# Altium integrated library Actel IGLOO PLUS.IntLib: 96 symbols (part 7 of 12)
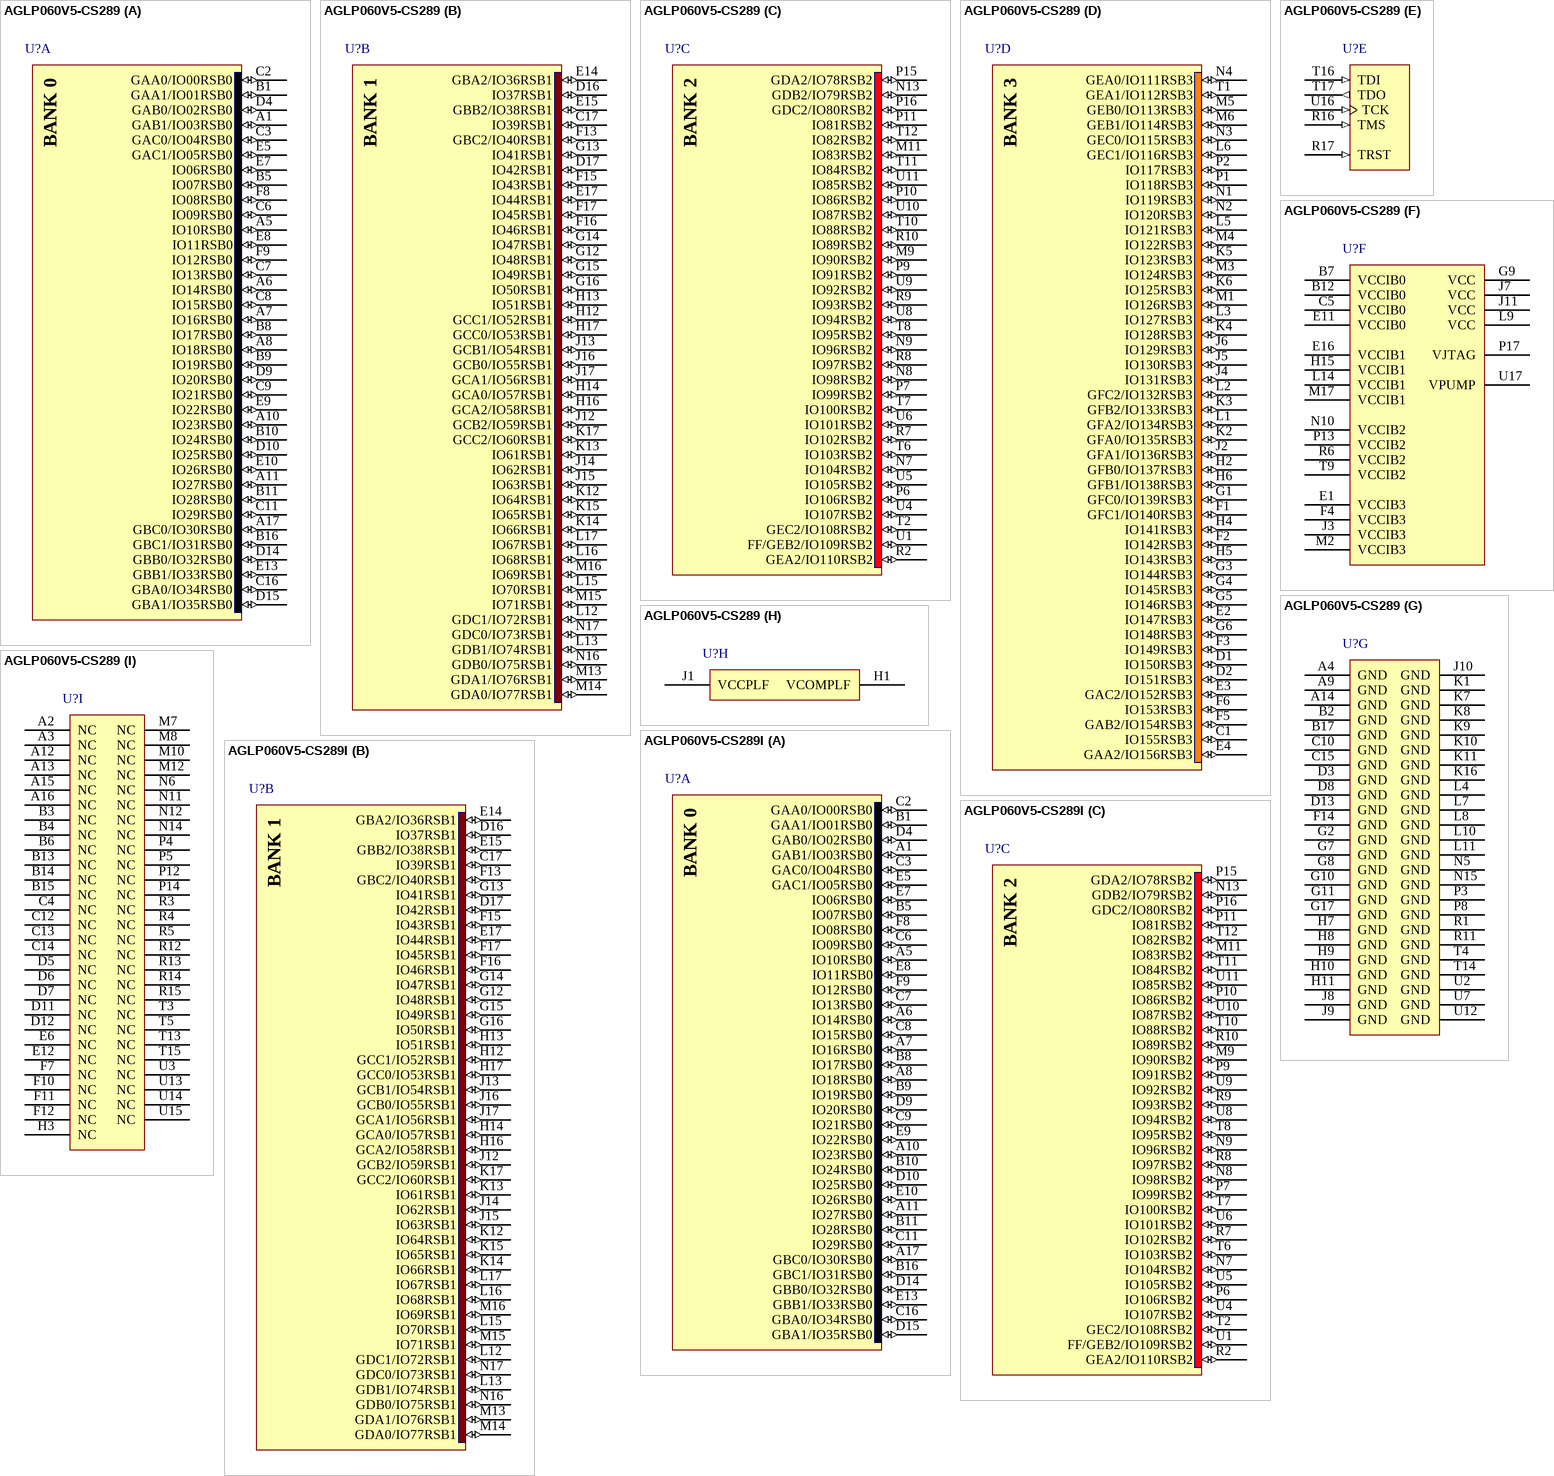
[diagram p70: symbols AGLP060V5-CS289 to AGLP060V5-CS289I]

## AGLP060V5-CS289
designator U?
IGLOO PLUS Low-Power Flash 1.5V FPGA with Flash*Freeze, 157 User IOs, 60K System Gates, 1Kbit Flash ROM, 289-Pin CSP, Commercial Grade; Published: 29-May-2009; LatestRevisionDate: 11-Dec-2009; LatestRevisionNote: Updated to datasheet version 1.5 Apr-2009.; DatasheetVersion: v1.5, Apr-2009; PackageVersion: ver11.2, Nov-2009; PackageReference: CS289; Publisher: Altium Limited; PackageDescription: 289-Ball Chip Scale Package 0.8 mm Pitch (CS289); ComponentLink1Description: IGLOO PLUS Datasheet; ComponentLink1URL: http://www.actel.com/documents/IGLOOPLUS_DS.pdf; ComponentLink2Description: Package Mechanical Drawings; ComponentLink2URL: http://www.actel.com/documents/PckgMechDrwngs.pdf; ComponentLink3Description: IGLOO PLUS Documents; ComponentLink3URL: http://www.actel.com/products/iglooplus/docs.aspx; ComponentLink4Description: Actel.com Home; ComponentLink4URL: http://www.actel.com/
footprint CS289 (BGA, 289-Leads, Body 14x14mm, Pitch 0.8mm)
3D model AGLP060-CS289 (289-Ball Chip Scale Package 0.8 mm Pitch (CS289))
signal-integrity model AGLP060-CS289 (IGLOO PLUS)
part A pins: A1 GAB1/IO03RSB0 (io), A5 IO10RSB0 (io), A6 IO14RSB0 (io), A7 IO16RSB0 (io), A8 IO18RSB0 (io), A10 IO23RSB0 (io), A11 IO27RSB0 (io), A17 GBC0/IO30RSB0 (io), B1 GAA1/IO01RSB0 (io), B5 IO07RSB0 (io), B8 IO17RSB0 (io), B9 IO19RSB0 (io), B10 IO24RSB0 (io), B11 IO28RSB0 (io), B16 GBC1/IO31RSB0 (io), C2 GAA0/IO00RSB0 (io), C3 GAC0/IO04RSB0 (io), C6 IO09RSB0 (io), C7 IO13RSB0 (io), C8 IO15RSB0 (io), C9 IO21RSB0 (io), C11 IO29RSB0 (io), C16 GBA0/IO34RSB0 (io), D4 GAB0/IO02RSB0 (io), D9 IO20RSB0 (io), D10 IO25RSB0 (io), D14 GBB0/IO32RSB0 (io), D15 GBA1/IO35RSB0 (io), E5 GAC1/IO05RSB0 (io), E7 IO06RSB0 (io), E8 IO11RSB0 (io), E9 IO22RSB0 (io), E10 IO26RSB0 (io), E13 GBB1/IO33RSB0 (io), F8 IO08RSB0 (io), F9 IO12RSB0 (io)
part B pins: C17 IO39RSB1 (io), D16 IO37RSB1 (io), D17 IO42RSB1 (io), E14 GBA2/IO36RSB1 (io), E15 GBB2/IO38RSB1 (io), E17 IO44RSB1 (io), F13 GBC2/IO40RSB1 (io), F15 IO43RSB1 (io), F16 IO46RSB1 (io), F17 IO45RSB1 (io), G12 IO48RSB1 (io), G13 IO41RSB1 (io), G14 IO47RSB1 (io), G15 IO49RSB1 (io), G16 IO50RSB1 (io), H12 GCC1/IO52RSB1 (io), H13 IO51RSB1 (io), H14 GCA0/IO57RSB1 (io), H16 GCA2/IO58RSB1 (io), H17 GCC0/IO53RSB1 (io), J12 GCB2/IO59RSB1 (io), J13 GCB1/IO54RSB1 (io), J14 IO62RSB1 (io), J15 IO63RSB1 (io), J16 GCB0/IO55RSB1 (io), J17 GCA1/IO56RSB1 (io), K12 IO64RSB1 (io), K13 IO61RSB1 (io), K14 IO66RSB1 (io), K15 IO65RSB1 (io), K17 GCC2/IO60RSB1 (io), L12 GDC1/IO72RSB1 (io), L13 GDB1/IO74RSB1 (io), L15 IO70RSB1 (io), L16 IO68RSB1 (io), L17 IO67RSB1 (io), M13 GDA1/IO76RSB1 (io), M14 GDA0/IO77RSB1 (io), M15 IO71RSB1 (io), M16 IO69RSB1 (io), N16 GDB0/IO75RSB1 (io), N17 GDC0/IO73RSB1 (io)
part C pins: M9 IO90RSB2 (io), M11 IO83RSB2 (io), N7 IO104RSB2 (io), N8 IO98RSB2 (io), N9 IO96RSB2 (io), N13 GDB2/IO79RSB2 (io), P6 IO106RSB2 (io), P7 IO99RSB2 (io), P9 IO91RSB2 (io), P10 IO86RSB2 (io), P11 IO81RSB2 (io), P15 GDA2/IO78RSB2 (io), P16 GDC2/IO80RSB2 (io), R2 GEA2/IO110RSB2 (io), R7 IO102RSB2 (io), R8 IO97RSB2 (io), R9 IO93RSB2 (io), R10 IO89RSB2 (io), T2 GEC2/IO108RSB2 (io), T6 IO103RSB2 (io), T7 IO100RSB2 (io), T8 IO95RSB2 (io), T10 IO88RSB2 (io), T11 IO84RSB2 (io), T12 IO82RSB2 (io), U1 FF/GEB2/IO109RSB2 (io), U4 IO107RSB2 (io), U5 IO105RSB2 (io), U6 IO101RSB2 (io), U8 IO94RSB2 (io), U9 IO92RSB2 (io), U10 IO87RSB2 (io), U11 IO85RSB2 (io)
part D pins: C1 IO155RSB3 (io), D1 IO150RSB3 (io), D2 IO151RSB3 (io), E2 IO147RSB3 (io), E3 GAC2/IO152RSB3 (io), E4 GAA2/IO156RSB3 (io), F1 GFC1/IO140RSB3 (io), F2 IO142RSB3 (io), F3 IO149RSB3 (io), F5 GAB2/IO154RSB3 (io), F6 IO153RSB3 (io), G1 GFC0/IO139RSB3 (io), G3 IO144RSB3 (io), G4 IO145RSB3 (io), G5 IO146RSB3 (io), G6 IO148RSB3 (io), H2 GFB0/IO137RSB3 (io), H4 IO141RSB3 (io), H5 IO143RSB3 (io), H6 GFB1/IO138RSB3 (io), J2 GFA1/IO136RSB3 (io), J4 IO131RSB3 (io), J5 IO130RSB3 (io), J6 IO129RSB3 (io), K2 GFA0/IO135RSB3 (io), K3 GFB2/IO133RSB3 (io), K4 IO128RSB3 (io), K5 IO123RSB3 (io), K6 IO125RSB3 (io), L1 GFA2/IO134RSB3 (io), L2 GFC2/IO132RSB3 (io), L3 IO127RSB3 (io), L5 IO121RSB3 (io), L6 GEC1/IO116RSB3 (io), M1 IO126RSB3 (io), M3 IO124RSB3 (io), M4 IO122RSB3 (io), M5 GEB0/IO113RSB3 (io), M6 GEB1/IO114RSB3 (io), N1 IO119RSB3 (io), N2 IO120RSB3 (io), N3 GEC0/IO115RSB3 (io), N4 GEA0/IO111RSB3 (io), P1 IO118RSB3 (io), P2 IO117RSB3 (io), T1 GEA1/IO112RSB3 (io)
part E pins: R16 TMS (in), R17 TRST (in), T16 TDI (in), T17 TDO (out), U16 TCK (in)
part F pins: B7 VCCIB0 (power), B12 VCCIB0 (power), C5 VCCIB0 (power), E1 VCCIB3 (power), E11 VCCIB0 (power), E16 VCCIB1 (power), F4 VCCIB3 (power), G9 VCC (power), H15 VCCIB1 (power), J3 VCCIB3 (power), J7 VCC (power), J11 VCC (power), L9 VCC (power), L14 VCCIB1 (power), M2 VCCIB3 (power), M17 VCCIB1 (power), N10 VCCIB2 (power), P13 VCCIB2 (power), P17 VJTAG (power), R6 VCCIB2 (power), T9 VCCIB2 (power), U17 VPUMP (power)
part G pins: A4 GND (power), A9 GND (power), A14 GND (power), B2 GND (power), B17 GND (power), C10 GND (power), C15 GND (power), D3 GND (power), D8 GND (power), D13 GND (power), F14 GND (power), G2 GND (power), G7 GND (power), G8 GND (power), G10 GND (power), G11 GND (power), G17 GND (power), H7 GND (power), H8 GND (power), H9 GND (power), H10 GND (power), H11 GND (power), J8 GND (power), J9 GND (power), J10 GND (power), K1 GND (power), K7 GND (power), K8 GND (power), K9 GND (power), K10 GND (power), K11 GND (power), K16 GND (power), L4 GND (power), L7 GND (power), L8 GND (power), L10 GND (power), L11 GND (power), N5 GND (power), N15 GND (power), P3 GND (power), P8 GND (power), R1 GND (power), R11 GND (power), T4 GND (power), T14 GND (power), U2 GND (power), U7 GND (power), U12 GND (power)
part H pins: H1 VCOMPLF (power), J1 VCCPLF (power)
part I pins: A2 NC, A3 NC, A12 NC, A13 NC, A15 NC, A16 NC, B3 NC, B4 NC, B6 NC, B13 NC, B14 NC, B15 NC, C4 NC, C12 NC, C13 NC, C14 NC, D5 NC, D6 NC, D7 NC, D11 NC, D12 NC, E6 NC, E12 NC, F7 NC, F10 NC, F11 NC, F12 NC, H3 NC, M7 NC, M8 NC, M10 NC, M12 NC, N6 NC, N11 NC, N12 NC, N14 NC, P4 NC, P5 NC, P12 NC, P14 NC, R3 NC, R4 NC, R5 NC, R12 NC, R13 NC, R14 NC, R15 NC, T3 NC, T5 NC, T13 NC, T15 NC, U3 NC, U13 NC, U14 NC, U15 NC
part A text: BANK 0
part B text: BANK 1
part C text: BANK 2
part D text: BANK 3

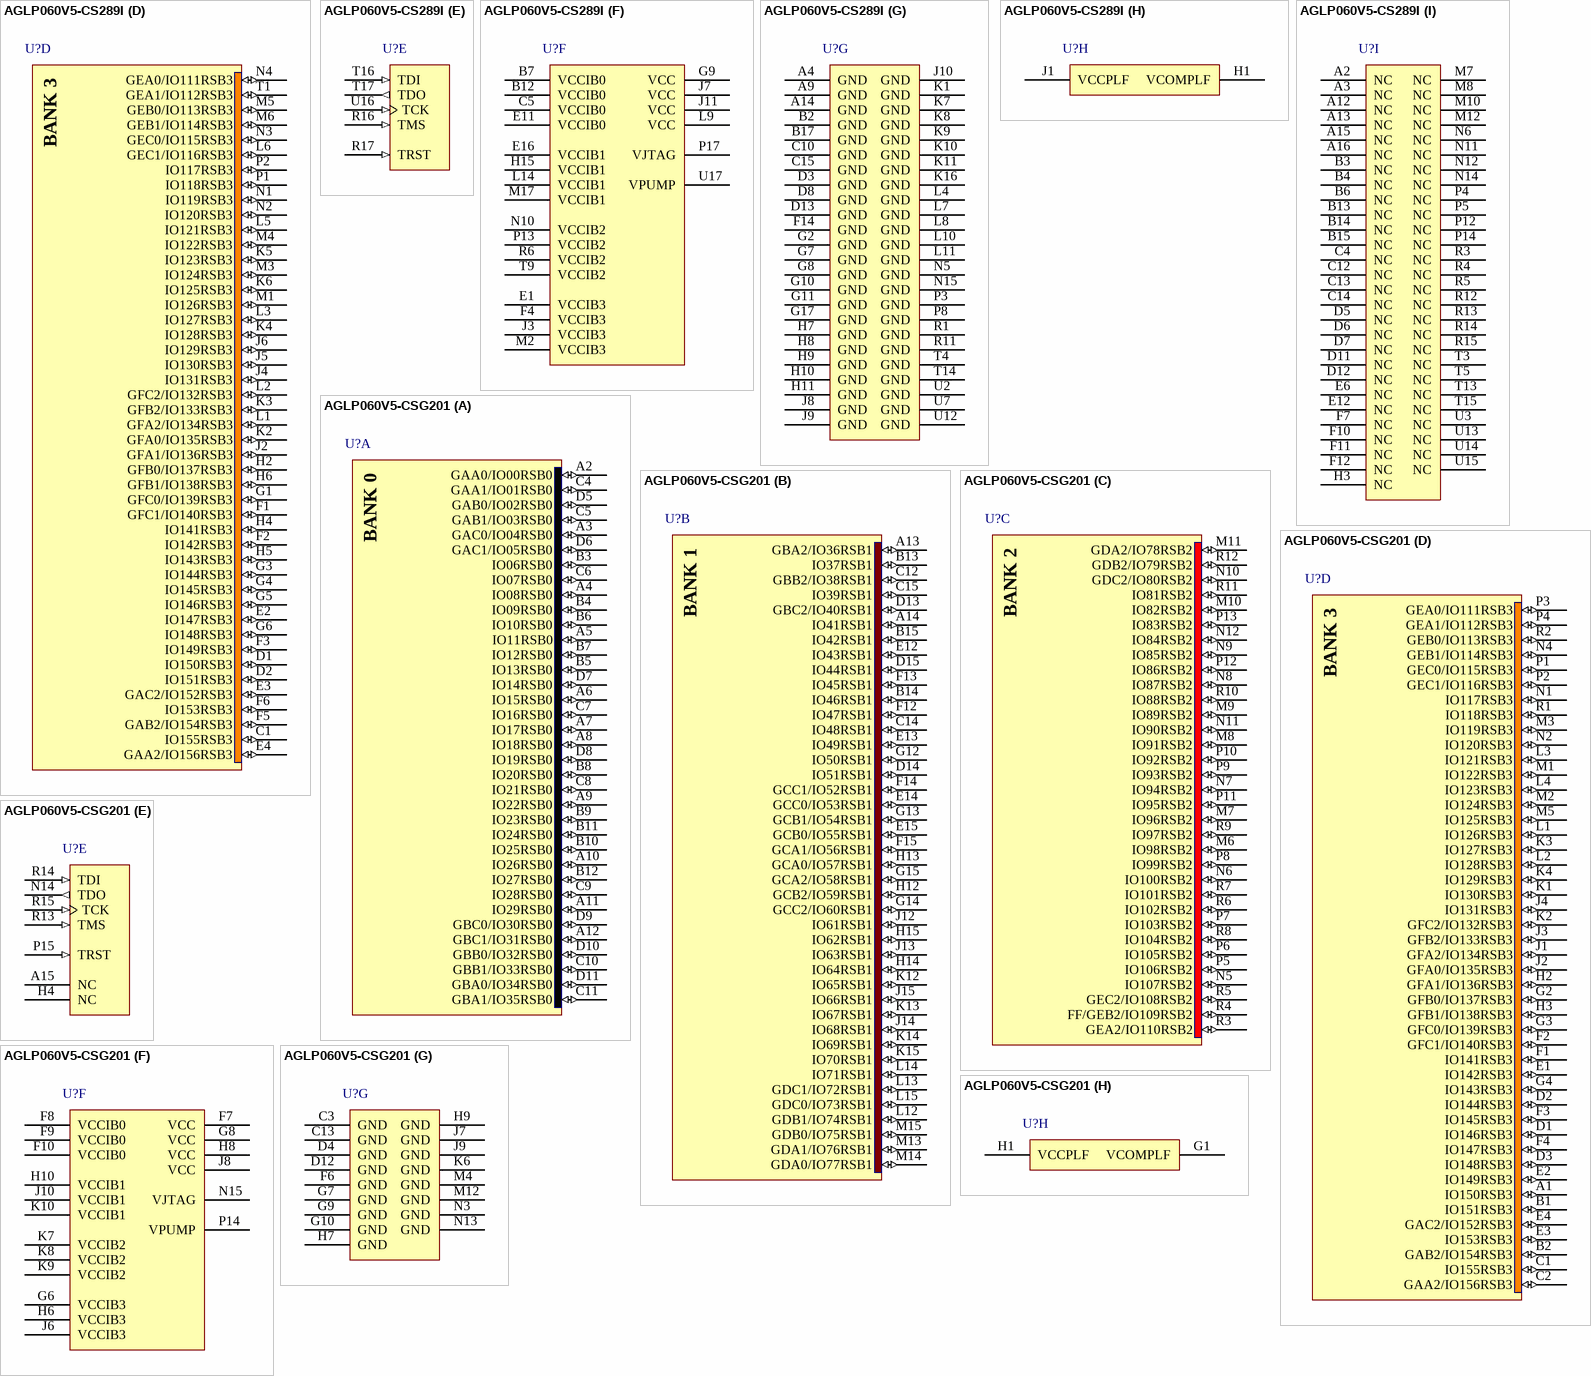
[diagram p32: symbols AGLP060V5-CS289I to AGLP060V5-CSG201]

## AGLP060V5-CS289I
designator U?
IGLOO PLUS Low-Power Flash 1.5V FPGA with Flash*Freeze, 157 User IOs, 60K System Gates, 1Kbit Flash ROM, 289-Pin CSP, Industrial Grade; Published: 29-May-2009; LatestRevisionDate: 11-Dec-2009; LatestRevisionNote: Updated to datasheet version 1.5 Apr-2009.; DatasheetVersion: v1.5, Apr-2009; PackageVersion: ver11.2, Nov-2009; PackageReference: CS289; Publisher: Altium Limited; PackageDescription: 289-Ball Chip Scale Package 0.8 mm Pitch (CS289); ComponentLink1Description: IGLOO PLUS Datasheet; ComponentLink1URL: http://www.actel.com/documents/IGLOOPLUS_DS.pdf; ComponentLink2Description: Package Mechanical Drawings; ComponentLink2URL: http://www.actel.com/documents/PckgMechDrwngs.pdf; ComponentLink3Description: IGLOO PLUS Documents; ComponentLink3URL: http://www.actel.com/products/iglooplus/docs.aspx; ComponentLink4Description: Actel.com Home; ComponentLink4URL: http://www.actel.com/
footprint CS289 (BGA, 289-Leads, Body 14x14mm, Pitch 0.8mm)
3D model AGLP060-CS289 (289-Ball Chip Scale Package 0.8 mm Pitch (CS289))
signal-integrity model AGLP060-CS289 (IGLOO PLUS)
part A pins: A1 GAB1/IO03RSB0 (io), A5 IO10RSB0 (io), A6 IO14RSB0 (io), A7 IO16RSB0 (io), A8 IO18RSB0 (io), A10 IO23RSB0 (io), A11 IO27RSB0 (io), A17 GBC0/IO30RSB0 (io), B1 GAA1/IO01RSB0 (io), B5 IO07RSB0 (io), B8 IO17RSB0 (io), B9 IO19RSB0 (io), B10 IO24RSB0 (io), B11 IO28RSB0 (io), B16 GBC1/IO31RSB0 (io), C2 GAA0/IO00RSB0 (io), C3 GAC0/IO04RSB0 (io), C6 IO09RSB0 (io), C7 IO13RSB0 (io), C8 IO15RSB0 (io), C9 IO21RSB0 (io), C11 IO29RSB0 (io), C16 GBA0/IO34RSB0 (io), D4 GAB0/IO02RSB0 (io), D9 IO20RSB0 (io), D10 IO25RSB0 (io), D14 GBB0/IO32RSB0 (io), D15 GBA1/IO35RSB0 (io), E5 GAC1/IO05RSB0 (io), E7 IO06RSB0 (io), E8 IO11RSB0 (io), E9 IO22RSB0 (io), E10 IO26RSB0 (io), E13 GBB1/IO33RSB0 (io), F8 IO08RSB0 (io), F9 IO12RSB0 (io)
part B pins: C17 IO39RSB1 (io), D16 IO37RSB1 (io), D17 IO42RSB1 (io), E14 GBA2/IO36RSB1 (io), E15 GBB2/IO38RSB1 (io), E17 IO44RSB1 (io), F13 GBC2/IO40RSB1 (io), F15 IO43RSB1 (io), F16 IO46RSB1 (io), F17 IO45RSB1 (io), G12 IO48RSB1 (io), G13 IO41RSB1 (io), G14 IO47RSB1 (io), G15 IO49RSB1 (io), G16 IO50RSB1 (io), H12 GCC1/IO52RSB1 (io), H13 IO51RSB1 (io), H14 GCA0/IO57RSB1 (io), H16 GCA2/IO58RSB1 (io), H17 GCC0/IO53RSB1 (io), J12 GCB2/IO59RSB1 (io), J13 GCB1/IO54RSB1 (io), J14 IO62RSB1 (io), J15 IO63RSB1 (io), J16 GCB0/IO55RSB1 (io), J17 GCA1/IO56RSB1 (io), K12 IO64RSB1 (io), K13 IO61RSB1 (io), K14 IO66RSB1 (io), K15 IO65RSB1 (io), K17 GCC2/IO60RSB1 (io), L12 GDC1/IO72RSB1 (io), L13 GDB1/IO74RSB1 (io), L15 IO70RSB1 (io), L16 IO68RSB1 (io), L17 IO67RSB1 (io), M13 GDA1/IO76RSB1 (io), M14 GDA0/IO77RSB1 (io), M15 IO71RSB1 (io), M16 IO69RSB1 (io), N16 GDB0/IO75RSB1 (io), N17 GDC0/IO73RSB1 (io)
part C pins: M9 IO90RSB2 (io), M11 IO83RSB2 (io), N7 IO104RSB2 (io), N8 IO98RSB2 (io), N9 IO96RSB2 (io), N13 GDB2/IO79RSB2 (io), P6 IO106RSB2 (io), P7 IO99RSB2 (io), P9 IO91RSB2 (io), P10 IO86RSB2 (io), P11 IO81RSB2 (io), P15 GDA2/IO78RSB2 (io), P16 GDC2/IO80RSB2 (io), R2 GEA2/IO110RSB2 (io), R7 IO102RSB2 (io), R8 IO97RSB2 (io), R9 IO93RSB2 (io), R10 IO89RSB2 (io), T2 GEC2/IO108RSB2 (io), T6 IO103RSB2 (io), T7 IO100RSB2 (io), T8 IO95RSB2 (io), T10 IO88RSB2 (io), T11 IO84RSB2 (io), T12 IO82RSB2 (io), U1 FF/GEB2/IO109RSB2 (io), U4 IO107RSB2 (io), U5 IO105RSB2 (io), U6 IO101RSB2 (io), U8 IO94RSB2 (io), U9 IO92RSB2 (io), U10 IO87RSB2 (io), U11 IO85RSB2 (io)
part D pins: C1 IO155RSB3 (io), D1 IO150RSB3 (io), D2 IO151RSB3 (io), E2 IO147RSB3 (io), E3 GAC2/IO152RSB3 (io), E4 GAA2/IO156RSB3 (io), F1 GFC1/IO140RSB3 (io), F2 IO142RSB3 (io), F3 IO149RSB3 (io), F5 GAB2/IO154RSB3 (io), F6 IO153RSB3 (io), G1 GFC0/IO139RSB3 (io), G3 IO144RSB3 (io), G4 IO145RSB3 (io), G5 IO146RSB3 (io), G6 IO148RSB3 (io), H2 GFB0/IO137RSB3 (io), H4 IO141RSB3 (io), H5 IO143RSB3 (io), H6 GFB1/IO138RSB3 (io), J2 GFA1/IO136RSB3 (io), J4 IO131RSB3 (io), J5 IO130RSB3 (io), J6 IO129RSB3 (io), K2 GFA0/IO135RSB3 (io), K3 GFB2/IO133RSB3 (io), K4 IO128RSB3 (io), K5 IO123RSB3 (io), K6 IO125RSB3 (io), L1 GFA2/IO134RSB3 (io), L2 GFC2/IO132RSB3 (io), L3 IO127RSB3 (io), L5 IO121RSB3 (io), L6 GEC1/IO116RSB3 (io), M1 IO126RSB3 (io), M3 IO124RSB3 (io), M4 IO122RSB3 (io), M5 GEB0/IO113RSB3 (io), M6 GEB1/IO114RSB3 (io), N1 IO119RSB3 (io), N2 IO120RSB3 (io), N3 GEC0/IO115RSB3 (io), N4 GEA0/IO111RSB3 (io), P1 IO118RSB3 (io), P2 IO117RSB3 (io), T1 GEA1/IO112RSB3 (io)
part E pins: R16 TMS (in), R17 TRST (in), T16 TDI (in), T17 TDO (out), U16 TCK (in)
part F pins: B7 VCCIB0 (power), B12 VCCIB0 (power), C5 VCCIB0 (power), E1 VCCIB3 (power), E11 VCCIB0 (power), E16 VCCIB1 (power), F4 VCCIB3 (power), G9 VCC (power), H15 VCCIB1 (power), J3 VCCIB3 (power), J7 VCC (power), J11 VCC (power), L9 VCC (power), L14 VCCIB1 (power), M2 VCCIB3 (power), M17 VCCIB1 (power), N10 VCCIB2 (power), P13 VCCIB2 (power), P17 VJTAG (power), R6 VCCIB2 (power), T9 VCCIB2 (power), U17 VPUMP (power)
part G pins: A4 GND (power), A9 GND (power), A14 GND (power), B2 GND (power), B17 GND (power), C10 GND (power), C15 GND (power), D3 GND (power), D8 GND (power), D13 GND (power), F14 GND (power), G2 GND (power), G7 GND (power), G8 GND (power), G10 GND (power), G11 GND (power), G17 GND (power), H7 GND (power), H8 GND (power), H9 GND (power), H10 GND (power), H11 GND (power), J8 GND (power), J9 GND (power), J10 GND (power), K1 GND (power), K7 GND (power), K8 GND (power), K9 GND (power), K10 GND (power), K11 GND (power), K16 GND (power), L4 GND (power), L7 GND (power), L8 GND (power), L10 GND (power), L11 GND (power), N5 GND (power), N15 GND (power), P3 GND (power), P8 GND (power), R1 GND (power), R11 GND (power), T4 GND (power), T14 GND (power), U2 GND (power), U7 GND (power), U12 GND (power)
part H pins: H1 VCOMPLF (power), J1 VCCPLF (power)
part I pins: A2 NC, A3 NC, A12 NC, A13 NC, A15 NC, A16 NC, B3 NC, B4 NC, B6 NC, B13 NC, B14 NC, B15 NC, C4 NC, C12 NC, C13 NC, C14 NC, D5 NC, D6 NC, D7 NC, D11 NC, D12 NC, E6 NC, E12 NC, F7 NC, F10 NC, F11 NC, F12 NC, H3 NC, M7 NC, M8 NC, M10 NC, M12 NC, N6 NC, N11 NC, N12 NC, N14 NC, P4 NC, P5 NC, P12 NC, P14 NC, R3 NC, R4 NC, R5 NC, R12 NC, R13 NC, R14 NC, R15 NC, T3 NC, T5 NC, T13 NC, T15 NC, U3 NC, U13 NC, U14 NC, U15 NC
part A text: BANK 0
part B text: BANK 1
part C text: BANK 2
part D text: BANK 3

## AGLP060V5-CSG201
designator U?
IGLOO PLUS Low-Power Flash 1.5V FPGA with Flash*Freeze, 157 User IOs, 60K System Gates, 1Kbit Flash ROM, 201-Pin CSP, Commercial Grade, Pb-Free; Published: 29-May-2009; LatestRevisionDate: 11-Dec-2009; LatestRevisionNote: Updated to datasheet version 1.5 Apr-2009.; DatasheetVersion: v1.5, Apr-2009; PackageVersion: ver11.2, Nov-2009; PackageReference: CS201; Publisher: Altium Limited; PackageDescription: 201-Ball Chip Scale Package 0.5 mm Pitch (CS201); Code_JEDEC: MO-195-AE (Depopulated); ComponentLink1Description: IGLOO PLUS Datasheet; ComponentLink1URL: http://www.actel.com/documents/IGLOOPLUS_DS.pdf; ComponentLink2Description: Package Mechanical Drawings; ComponentLink2URL: http://www.actel.com/documents/PckgMechDrwngs.pdf; ComponentLink3Description: IGLOO PLUS Documents; ComponentLink3URL: http://www.actel.com/products/iglooplus/docs.aspx; ComponentLink4Description: Actel.com Home; ComponentLink4URL: http://www.actel.com/
footprint CS201 (BGA, 201-Leads, Body 8x8mm, Pitch 0.5mm)
3D model AGLP060-CS201 (201-Ball Chip Scale Package 0.5 mm Pitch (CS201))
signal-integrity model AGLP060-CS201 (IGLOO PLUS)
part A pins: A2 GAA0/IO00RSB0 (io), A3 GAC0/IO04RSB0 (io), A4 IO08RSB0 (io), A5 IO11RSB0 (io), A6 IO15RSB0 (io), A7 IO17RSB0 (io), A8 IO18RSB0 (io), A9 IO22RSB0 (io), A10 IO26RSB0 (io), A11 IO29RSB0 (io), A12 GBC1/IO31RSB0 (io), B3 IO06RSB0 (io), B4 IO09RSB0 (io), B5 IO13RSB0 (io), B6 IO10RSB0 (io), B7 IO12RSB0 (io), B8 IO20RSB0 (io), B9 IO23RSB0 (io), B10 IO25RSB0 (io), B11 IO24RSB0 (io), B12 IO27RSB0 (io), C4 GAA1/IO01RSB0 (io), C5 GAB1/IO03RSB0 (io), C6 IO07RSB0 (io), C7 IO16RSB0 (io), C8 IO21RSB0 (io), C9 IO28RSB0 (io), C10 GBB1/IO33RSB0 (io), C11 GBA1/IO35RSB0 (io), D5 GAB0/IO02RSB0 (io), D6 GAC1/IO05RSB0 (io), D7 IO14RSB0 (io), D8 IO19RSB0 (io), D9 GBC0/IO30RSB0 (io), D10 GBB0/IO32RSB0 (io), D11 GBA0/IO34RSB0 (io)
part B pins: A13 GBA2/IO36RSB1 (io), A14 IO41RSB1 (io), B13 IO37RSB1 (io), B14 IO46RSB1 (io), B15 IO42RSB1 (io), C12 GBB2/IO38RSB1 (io), C14 IO48RSB1 (io), C15 IO39RSB1 (io), D13 GBC2/IO40RSB1 (io), D14 IO51RSB1 (io), D15 IO44RSB1 (io), E12 IO43RSB1 (io), E13 IO49RSB1 (io), E14 GCC0/IO53RSB1 (io), E15 GCB0/IO55RSB1 (io), F12 IO47RSB1 (io), F13 IO45RSB1 (io), F14 GCC1/IO52RSB1 (io), F15 GCA1/IO56RSB1 (io), G12 IO50RSB1 (io), G13 GCB1/IO54RSB1 (io), G14 GCC2/IO60RSB1 (io), G15 GCA2/IO58RSB1 (io), H12 GCB2/IO59RSB1 (io), H13 GCA0/IO57RSB1 (io), H14 IO64RSB1 (io), H15 IO62RSB1 (io), J12 IO61RSB1 (io), J13 IO63RSB1 (io), J14 IO68RSB1 (io), J15 IO66RSB1 (io), K12 IO65RSB1 (io), K13 IO67RSB1 (io), K14 IO69RSB1 (io), K15 IO70RSB1 (io), L12 GDB1/IO74RSB1 (io), L13 GDC1/IO72RSB1 (io), L14 IO71RSB1 (io), L15 GDC0/IO73RSB1 (io), M13 GDA1/IO76RSB1 (io), M14 GDA0/IO77RSB1 (io), M15 GDB0/IO75RSB1 (io)
part C pins: M6 IO98RSB2 (io), M7 IO96RSB2 (io), M8 IO91RSB2 (io), M9 IO89RSB2 (io), M10 IO82RSB2 (io), M11 GDA2/IO78RSB2 (io), N5 IO107RSB2 (io), N6 IO100RSB2 (io), N7 IO94RSB2 (io), N8 IO87RSB2 (io), N9 IO85RSB2 (io), N10 GDC2/IO80RSB2 (io), N11 IO90RSB2 (io), N12 IO84RSB2 (io), P5 IO106RSB2 (io), P6 IO105RSB2 (io), P7 IO103RSB2 (io), P8 IO99RSB2 (io), P9 IO93RSB2 (io), P10 IO92RSB2 (io), P11 IO95RSB2 (io), P12 IO86RSB2 (io), P13 IO83RSB2 (io), R3 GEA2/IO110RSB2 (io), R4 FF/GEB2/IO109RSB2 (io), R5 GEC2/IO108RSB2 (io), R6 IO102RSB2 (io), R7 IO101RSB2 (io), R8 IO104RSB2 (io), R9 IO97RSB2 (io), R10 IO88RSB2 (io), R11 IO81RSB2 (io), R12 GDB2/IO79RSB2 (io)
part D pins: A1 IO150RSB3 (io), B1 IO151RSB3 (io), B2 GAB2/IO154RSB3 (io), C1 IO155RSB3 (io), C2 GAA2/IO156RSB3 (io), D1 IO146RSB3 (io), D2 IO144RSB3 (io), D3 IO148RSB3 (io), E1 IO142RSB3 (io), E2 IO149RSB3 (io), E3 IO153RSB3 (io), E4 GAC2/IO152RSB3 (io), F1 IO141RSB3 (io), F2 GFC1/IO140RSB3 (io), F3 IO145RSB3 (io), F4 IO147RSB3 (io), G2 GFB0/IO137RSB3 (io), G3 GFC0/IO139RSB3 (io), G4 IO143RSB3 (io), H2 GFA1/IO136RSB3 (io), H3 GFB1/IO138RSB3 (io), J1 GFA2/IO134RSB3 (io), J2 GFA0/IO135RSB3 (io), J3 GFB2/IO133RSB3 (io), J4 IO131RSB3 (io), K1 IO130RSB3 (io), K2 GFC2/IO132RSB3 (io), K3 IO127RSB3 (io), K4 IO129RSB3 (io), L1 IO126RSB3 (io), L2 IO128RSB3 (io), L3 IO121RSB3 (io), L4 IO123RSB3 (io), M1 IO122RSB3 (io), M2 IO124RSB3 (io), M3 IO119RSB3 (io), M5 IO125RSB3 (io), N1 IO117RSB3 (io), N2 IO120RSB3 (io), N4 GEB1/IO114RSB3 (io), P1 GEC0/IO115RSB3 (io), P2 GEC1/IO116RSB3 (io), P3 GEA0/IO111RSB3 (io), P4 GEA1/IO112RSB3 (io), R1 IO118RSB3 (io), R2 GEB0/IO113RSB3 (io)
part E pins: A15 NC, H4 NC, N14 TDO (out), P15 TRST (in), R13 TMS (in), R14 TDI (in), R15 TCK (in)
part F pins: F7 VCC (power), F8 VCCIB0 (power), F9 VCCIB0 (power), F10 VCCIB0 (power), G6 VCCIB3 (power), G8 VCC (power), H6 VCCIB3 (power), H8 VCC (power), H10 VCCIB1 (power), J6 VCCIB3 (power), J8 VCC (power), J10 VCCIB1 (power), K7 VCCIB2 (power), K8 VCCIB2 (power), K9 VCCIB2 (power), K10 VCCIB1 (power), N15 VJTAG (power), P14 VPUMP (power)
part G pins: C3 GND (power), C13 GND (power), D4 GND (power), D12 GND (power), F6 GND (power), G7 GND (power), G9 GND (power), G10 GND (power), H7 GND (power), H9 GND (power), J7 GND (power), J9 GND (power), K6 GND (power), M4 GND (power), M12 GND (power), N3 GND (power), N13 GND (power)
part H pins: G1 VCOMPLF (power), H1 VCCPLF (power)
part A text: BANK 0
part B text: BANK 1
part C text: BANK 2
part D text: BANK 3

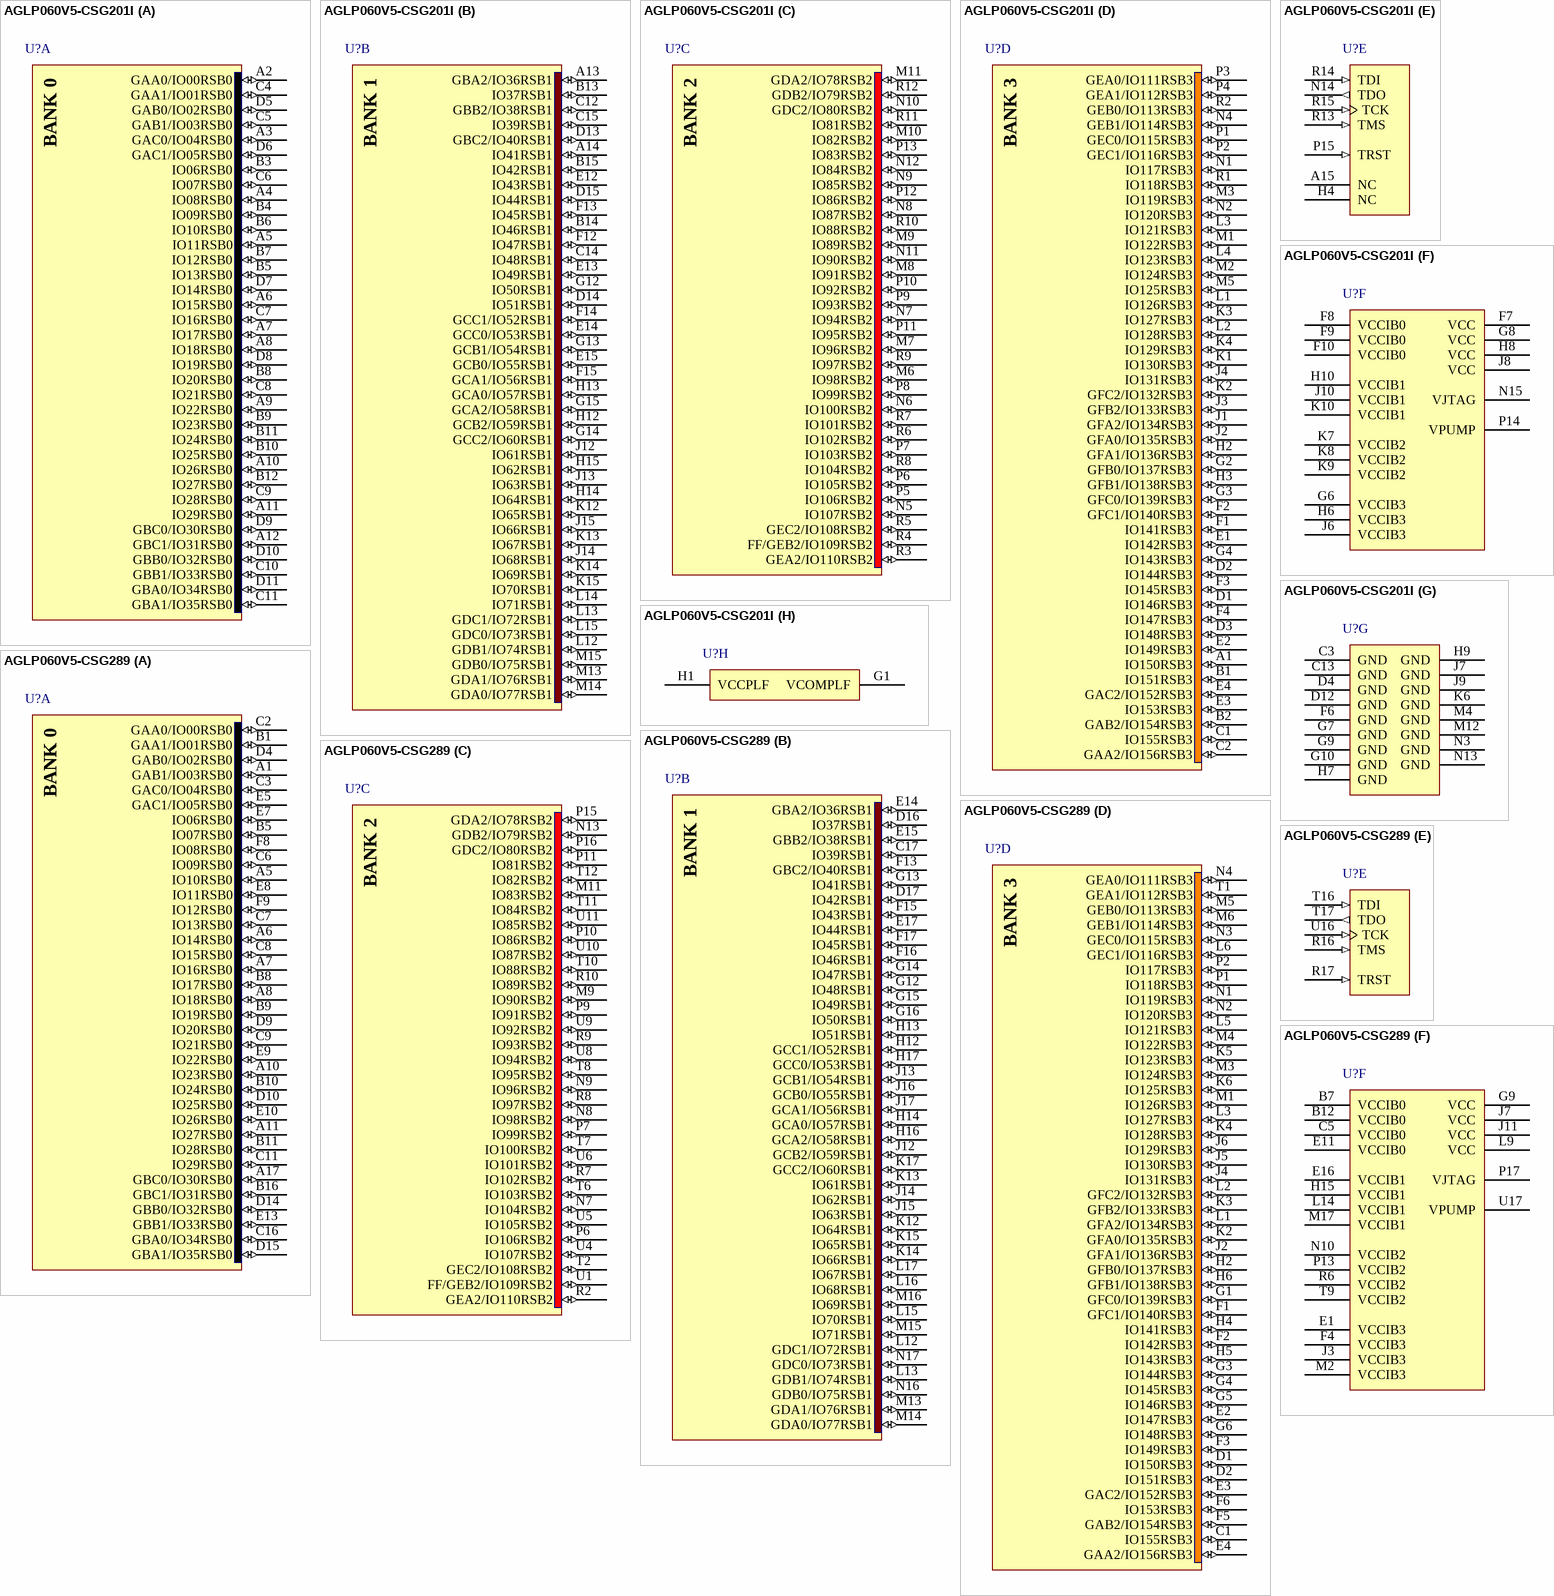
[diagram p33: symbols AGLP060V5-CSG201I to AGLP060V5-CSG289]

## AGLP060V5-CSG201I
designator U?
IGLOO PLUS Low-Power Flash 1.5V FPGA with Flash*Freeze, 157 User IOs, 60K System Gates, 1Kbit Flash ROM, 201-Pin CSP, Industrial Grade, Pb-Free; Published: 29-May-2009; LatestRevisionDate: 11-Dec-2009; LatestRevisionNote: Updated to datasheet version 1.5 Apr-2009.; DatasheetVersion: v1.5, Apr-2009; PackageVersion: ver11.2, Nov-2009; PackageReference: CS201; Publisher: Altium Limited; PackageDescription: 201-Ball Chip Scale Package 0.5 mm Pitch (CS201); Code_JEDEC: MO-195-AE (Depopulated); ComponentLink1Description: IGLOO PLUS Datasheet; ComponentLink1URL: http://www.actel.com/documents/IGLOOPLUS_DS.pdf; ComponentLink2Description: Package Mechanical Drawings; ComponentLink2URL: http://www.actel.com/documents/PckgMechDrwngs.pdf; ComponentLink3Description: IGLOO PLUS Documents; ComponentLink3URL: http://www.actel.com/products/iglooplus/docs.aspx; ComponentLink4Description: Actel.com Home; ComponentLink4URL: http://www.actel.com/
footprint CS201 (BGA, 201-Leads, Body 8x8mm, Pitch 0.5mm)
3D model AGLP060-CS201 (201-Ball Chip Scale Package 0.5 mm Pitch (CS201))
signal-integrity model AGLP060-CS201 (IGLOO PLUS)
part A pins: A2 GAA0/IO00RSB0 (io), A3 GAC0/IO04RSB0 (io), A4 IO08RSB0 (io), A5 IO11RSB0 (io), A6 IO15RSB0 (io), A7 IO17RSB0 (io), A8 IO18RSB0 (io), A9 IO22RSB0 (io), A10 IO26RSB0 (io), A11 IO29RSB0 (io), A12 GBC1/IO31RSB0 (io), B3 IO06RSB0 (io), B4 IO09RSB0 (io), B5 IO13RSB0 (io), B6 IO10RSB0 (io), B7 IO12RSB0 (io), B8 IO20RSB0 (io), B9 IO23RSB0 (io), B10 IO25RSB0 (io), B11 IO24RSB0 (io), B12 IO27RSB0 (io), C4 GAA1/IO01RSB0 (io), C5 GAB1/IO03RSB0 (io), C6 IO07RSB0 (io), C7 IO16RSB0 (io), C8 IO21RSB0 (io), C9 IO28RSB0 (io), C10 GBB1/IO33RSB0 (io), C11 GBA1/IO35RSB0 (io), D5 GAB0/IO02RSB0 (io), D6 GAC1/IO05RSB0 (io), D7 IO14RSB0 (io), D8 IO19RSB0 (io), D9 GBC0/IO30RSB0 (io), D10 GBB0/IO32RSB0 (io), D11 GBA0/IO34RSB0 (io)
part B pins: A13 GBA2/IO36RSB1 (io), A14 IO41RSB1 (io), B13 IO37RSB1 (io), B14 IO46RSB1 (io), B15 IO42RSB1 (io), C12 GBB2/IO38RSB1 (io), C14 IO48RSB1 (io), C15 IO39RSB1 (io), D13 GBC2/IO40RSB1 (io), D14 IO51RSB1 (io), D15 IO44RSB1 (io), E12 IO43RSB1 (io), E13 IO49RSB1 (io), E14 GCC0/IO53RSB1 (io), E15 GCB0/IO55RSB1 (io), F12 IO47RSB1 (io), F13 IO45RSB1 (io), F14 GCC1/IO52RSB1 (io), F15 GCA1/IO56RSB1 (io), G12 IO50RSB1 (io), G13 GCB1/IO54RSB1 (io), G14 GCC2/IO60RSB1 (io), G15 GCA2/IO58RSB1 (io), H12 GCB2/IO59RSB1 (io), H13 GCA0/IO57RSB1 (io), H14 IO64RSB1 (io), H15 IO62RSB1 (io), J12 IO61RSB1 (io), J13 IO63RSB1 (io), J14 IO68RSB1 (io), J15 IO66RSB1 (io), K12 IO65RSB1 (io), K13 IO67RSB1 (io), K14 IO69RSB1 (io), K15 IO70RSB1 (io), L12 GDB1/IO74RSB1 (io), L13 GDC1/IO72RSB1 (io), L14 IO71RSB1 (io), L15 GDC0/IO73RSB1 (io), M13 GDA1/IO76RSB1 (io), M14 GDA0/IO77RSB1 (io), M15 GDB0/IO75RSB1 (io)
part C pins: M6 IO98RSB2 (io), M7 IO96RSB2 (io), M8 IO91RSB2 (io), M9 IO89RSB2 (io), M10 IO82RSB2 (io), M11 GDA2/IO78RSB2 (io), N5 IO107RSB2 (io), N6 IO100RSB2 (io), N7 IO94RSB2 (io), N8 IO87RSB2 (io), N9 IO85RSB2 (io), N10 GDC2/IO80RSB2 (io), N11 IO90RSB2 (io), N12 IO84RSB2 (io), P5 IO106RSB2 (io), P6 IO105RSB2 (io), P7 IO103RSB2 (io), P8 IO99RSB2 (io), P9 IO93RSB2 (io), P10 IO92RSB2 (io), P11 IO95RSB2 (io), P12 IO86RSB2 (io), P13 IO83RSB2 (io), R3 GEA2/IO110RSB2 (io), R4 FF/GEB2/IO109RSB2 (io), R5 GEC2/IO108RSB2 (io), R6 IO102RSB2 (io), R7 IO101RSB2 (io), R8 IO104RSB2 (io), R9 IO97RSB2 (io), R10 IO88RSB2 (io), R11 IO81RSB2 (io), R12 GDB2/IO79RSB2 (io)
part D pins: A1 IO150RSB3 (io), B1 IO151RSB3 (io), B2 GAB2/IO154RSB3 (io), C1 IO155RSB3 (io), C2 GAA2/IO156RSB3 (io), D1 IO146RSB3 (io), D2 IO144RSB3 (io), D3 IO148RSB3 (io), E1 IO142RSB3 (io), E2 IO149RSB3 (io), E3 IO153RSB3 (io), E4 GAC2/IO152RSB3 (io), F1 IO141RSB3 (io), F2 GFC1/IO140RSB3 (io), F3 IO145RSB3 (io), F4 IO147RSB3 (io), G2 GFB0/IO137RSB3 (io), G3 GFC0/IO139RSB3 (io), G4 IO143RSB3 (io), H2 GFA1/IO136RSB3 (io), H3 GFB1/IO138RSB3 (io), J1 GFA2/IO134RSB3 (io), J2 GFA0/IO135RSB3 (io), J3 GFB2/IO133RSB3 (io), J4 IO131RSB3 (io), K1 IO130RSB3 (io), K2 GFC2/IO132RSB3 (io), K3 IO127RSB3 (io), K4 IO129RSB3 (io), L1 IO126RSB3 (io), L2 IO128RSB3 (io), L3 IO121RSB3 (io), L4 IO123RSB3 (io), M1 IO122RSB3 (io), M2 IO124RSB3 (io), M3 IO119RSB3 (io), M5 IO125RSB3 (io), N1 IO117RSB3 (io), N2 IO120RSB3 (io), N4 GEB1/IO114RSB3 (io), P1 GEC0/IO115RSB3 (io), P2 GEC1/IO116RSB3 (io), P3 GEA0/IO111RSB3 (io), P4 GEA1/IO112RSB3 (io), R1 IO118RSB3 (io), R2 GEB0/IO113RSB3 (io)
part E pins: A15 NC, H4 NC, N14 TDO (out), P15 TRST (in), R13 TMS (in), R14 TDI (in), R15 TCK (in)
part F pins: F7 VCC (power), F8 VCCIB0 (power), F9 VCCIB0 (power), F10 VCCIB0 (power), G6 VCCIB3 (power), G8 VCC (power), H6 VCCIB3 (power), H8 VCC (power), H10 VCCIB1 (power), J6 VCCIB3 (power), J8 VCC (power), J10 VCCIB1 (power), K7 VCCIB2 (power), K8 VCCIB2 (power), K9 VCCIB2 (power), K10 VCCIB1 (power), N15 VJTAG (power), P14 VPUMP (power)
part G pins: C3 GND (power), C13 GND (power), D4 GND (power), D12 GND (power), F6 GND (power), G7 GND (power), G9 GND (power), G10 GND (power), H7 GND (power), H9 GND (power), J7 GND (power), J9 GND (power), K6 GND (power), M4 GND (power), M12 GND (power), N3 GND (power), N13 GND (power)
part H pins: G1 VCOMPLF (power), H1 VCCPLF (power)
part A text: BANK 0
part B text: BANK 1
part C text: BANK 2
part D text: BANK 3

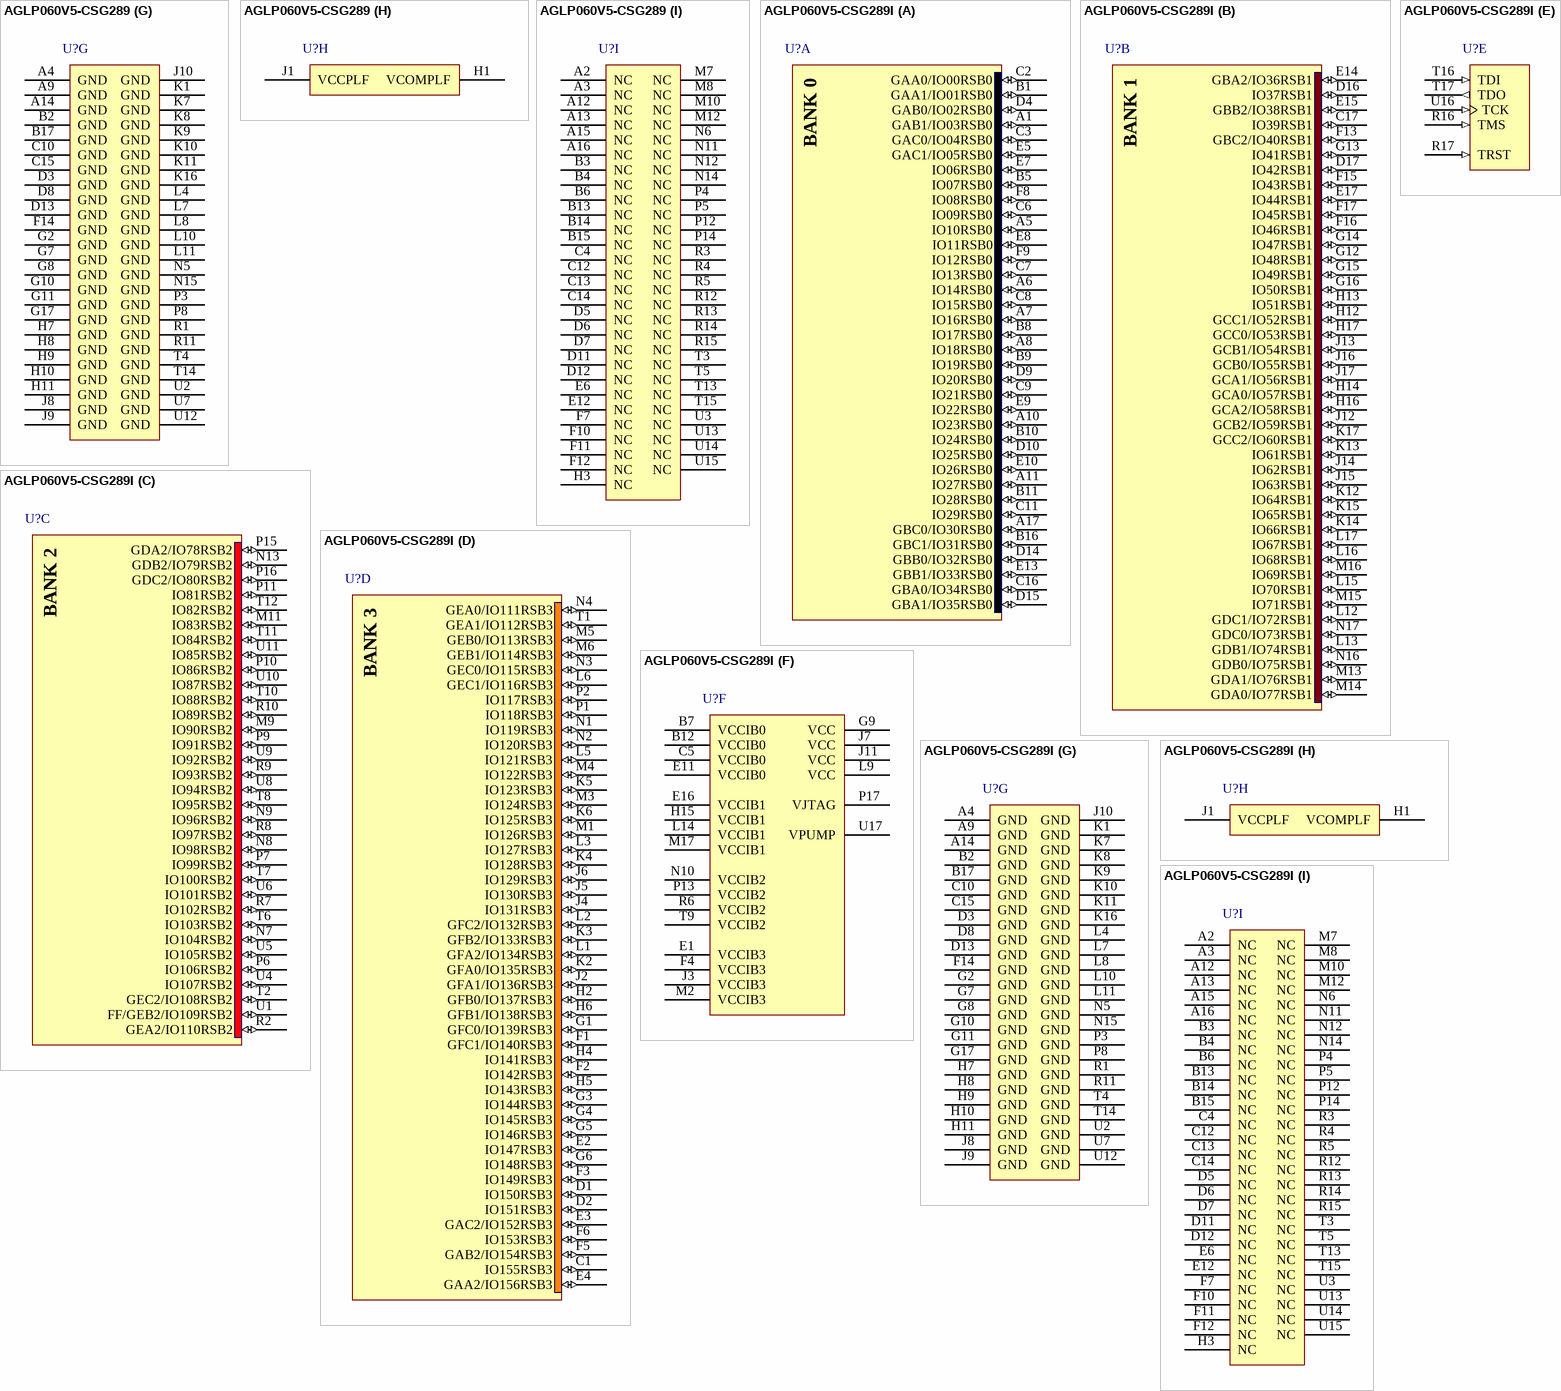
[diagram p34: symbols AGLP060V5-CSG289 to AGLP060V5-CSG289I]

## AGLP060V5-CSG289
designator U?
IGLOO PLUS Low-Power Flash 1.5V FPGA with Flash*Freeze, 157 User IOs, 60K System Gates, 1Kbit Flash ROM, 289-Pin CSP, Commercial Grade, Pb-Free; Published: 29-May-2009; LatestRevisionDate: 11-Dec-2009; LatestRevisionNote: Updated to datasheet version 1.5 Apr-2009.; DatasheetVersion: v1.5, Apr-2009; PackageVersion: ver11.2, Nov-2009; PackageReference: CS289; Publisher: Altium Limited; PackageDescription: 289-Ball Chip Scale Package 0.8 mm Pitch (CS289); ComponentLink1Description: IGLOO PLUS Datasheet; ComponentLink1URL: http://www.actel.com/documents/IGLOOPLUS_DS.pdf; ComponentLink2Description: Package Mechanical Drawings; ComponentLink2URL: http://www.actel.com/documents/PckgMechDrwngs.pdf; ComponentLink3Description: IGLOO PLUS Documents; ComponentLink3URL: http://www.actel.com/products/iglooplus/docs.aspx; ComponentLink4Description: Actel.com Home; ComponentLink4URL: http://www.actel.com/
footprint CS289 (BGA, 289-Leads, Body 14x14mm, Pitch 0.8mm)
3D model AGLP060-CS289 (289-Ball Chip Scale Package 0.8 mm Pitch (CS289))
signal-integrity model AGLP060-CS289 (IGLOO PLUS)
part A pins: A1 GAB1/IO03RSB0 (io), A5 IO10RSB0 (io), A6 IO14RSB0 (io), A7 IO16RSB0 (io), A8 IO18RSB0 (io), A10 IO23RSB0 (io), A11 IO27RSB0 (io), A17 GBC0/IO30RSB0 (io), B1 GAA1/IO01RSB0 (io), B5 IO07RSB0 (io), B8 IO17RSB0 (io), B9 IO19RSB0 (io), B10 IO24RSB0 (io), B11 IO28RSB0 (io), B16 GBC1/IO31RSB0 (io), C2 GAA0/IO00RSB0 (io), C3 GAC0/IO04RSB0 (io), C6 IO09RSB0 (io), C7 IO13RSB0 (io), C8 IO15RSB0 (io), C9 IO21RSB0 (io), C11 IO29RSB0 (io), C16 GBA0/IO34RSB0 (io), D4 GAB0/IO02RSB0 (io), D9 IO20RSB0 (io), D10 IO25RSB0 (io), D14 GBB0/IO32RSB0 (io), D15 GBA1/IO35RSB0 (io), E5 GAC1/IO05RSB0 (io), E7 IO06RSB0 (io), E8 IO11RSB0 (io), E9 IO22RSB0 (io), E10 IO26RSB0 (io), E13 GBB1/IO33RSB0 (io), F8 IO08RSB0 (io), F9 IO12RSB0 (io)
part B pins: C17 IO39RSB1 (io), D16 IO37RSB1 (io), D17 IO42RSB1 (io), E14 GBA2/IO36RSB1 (io), E15 GBB2/IO38RSB1 (io), E17 IO44RSB1 (io), F13 GBC2/IO40RSB1 (io), F15 IO43RSB1 (io), F16 IO46RSB1 (io), F17 IO45RSB1 (io), G12 IO48RSB1 (io), G13 IO41RSB1 (io), G14 IO47RSB1 (io), G15 IO49RSB1 (io), G16 IO50RSB1 (io), H12 GCC1/IO52RSB1 (io), H13 IO51RSB1 (io), H14 GCA0/IO57RSB1 (io), H16 GCA2/IO58RSB1 (io), H17 GCC0/IO53RSB1 (io), J12 GCB2/IO59RSB1 (io), J13 GCB1/IO54RSB1 (io), J14 IO62RSB1 (io), J15 IO63RSB1 (io), J16 GCB0/IO55RSB1 (io), J17 GCA1/IO56RSB1 (io), K12 IO64RSB1 (io), K13 IO61RSB1 (io), K14 IO66RSB1 (io), K15 IO65RSB1 (io), K17 GCC2/IO60RSB1 (io), L12 GDC1/IO72RSB1 (io), L13 GDB1/IO74RSB1 (io), L15 IO70RSB1 (io), L16 IO68RSB1 (io), L17 IO67RSB1 (io), M13 GDA1/IO76RSB1 (io), M14 GDA0/IO77RSB1 (io), M15 IO71RSB1 (io), M16 IO69RSB1 (io), N16 GDB0/IO75RSB1 (io), N17 GDC0/IO73RSB1 (io)
part C pins: M9 IO90RSB2 (io), M11 IO83RSB2 (io), N7 IO104RSB2 (io), N8 IO98RSB2 (io), N9 IO96RSB2 (io), N13 GDB2/IO79RSB2 (io), P6 IO106RSB2 (io), P7 IO99RSB2 (io), P9 IO91RSB2 (io), P10 IO86RSB2 (io), P11 IO81RSB2 (io), P15 GDA2/IO78RSB2 (io), P16 GDC2/IO80RSB2 (io), R2 GEA2/IO110RSB2 (io), R7 IO102RSB2 (io), R8 IO97RSB2 (io), R9 IO93RSB2 (io), R10 IO89RSB2 (io), T2 GEC2/IO108RSB2 (io), T6 IO103RSB2 (io), T7 IO100RSB2 (io), T8 IO95RSB2 (io), T10 IO88RSB2 (io), T11 IO84RSB2 (io), T12 IO82RSB2 (io), U1 FF/GEB2/IO109RSB2 (io), U4 IO107RSB2 (io), U5 IO105RSB2 (io), U6 IO101RSB2 (io), U8 IO94RSB2 (io), U9 IO92RSB2 (io), U10 IO87RSB2 (io), U11 IO85RSB2 (io)
part D pins: C1 IO155RSB3 (io), D1 IO150RSB3 (io), D2 IO151RSB3 (io), E2 IO147RSB3 (io), E3 GAC2/IO152RSB3 (io), E4 GAA2/IO156RSB3 (io), F1 GFC1/IO140RSB3 (io), F2 IO142RSB3 (io), F3 IO149RSB3 (io), F5 GAB2/IO154RSB3 (io), F6 IO153RSB3 (io), G1 GFC0/IO139RSB3 (io), G3 IO144RSB3 (io), G4 IO145RSB3 (io), G5 IO146RSB3 (io), G6 IO148RSB3 (io), H2 GFB0/IO137RSB3 (io), H4 IO141RSB3 (io), H5 IO143RSB3 (io), H6 GFB1/IO138RSB3 (io), J2 GFA1/IO136RSB3 (io), J4 IO131RSB3 (io), J5 IO130RSB3 (io), J6 IO129RSB3 (io), K2 GFA0/IO135RSB3 (io), K3 GFB2/IO133RSB3 (io), K4 IO128RSB3 (io), K5 IO123RSB3 (io), K6 IO125RSB3 (io), L1 GFA2/IO134RSB3 (io), L2 GFC2/IO132RSB3 (io), L3 IO127RSB3 (io), L5 IO121RSB3 (io), L6 GEC1/IO116RSB3 (io), M1 IO126RSB3 (io), M3 IO124RSB3 (io), M4 IO122RSB3 (io), M5 GEB0/IO113RSB3 (io), M6 GEB1/IO114RSB3 (io), N1 IO119RSB3 (io), N2 IO120RSB3 (io), N3 GEC0/IO115RSB3 (io), N4 GEA0/IO111RSB3 (io), P1 IO118RSB3 (io), P2 IO117RSB3 (io), T1 GEA1/IO112RSB3 (io)
part E pins: R16 TMS (in), R17 TRST (in), T16 TDI (in), T17 TDO (out), U16 TCK (in)
part F pins: B7 VCCIB0 (power), B12 VCCIB0 (power), C5 VCCIB0 (power), E1 VCCIB3 (power), E11 VCCIB0 (power), E16 VCCIB1 (power), F4 VCCIB3 (power), G9 VCC (power), H15 VCCIB1 (power), J3 VCCIB3 (power), J7 VCC (power), J11 VCC (power), L9 VCC (power), L14 VCCIB1 (power), M2 VCCIB3 (power), M17 VCCIB1 (power), N10 VCCIB2 (power), P13 VCCIB2 (power), P17 VJTAG (power), R6 VCCIB2 (power), T9 VCCIB2 (power), U17 VPUMP (power)
part G pins: A4 GND (power), A9 GND (power), A14 GND (power), B2 GND (power), B17 GND (power), C10 GND (power), C15 GND (power), D3 GND (power), D8 GND (power), D13 GND (power), F14 GND (power), G2 GND (power), G7 GND (power), G8 GND (power), G10 GND (power), G11 GND (power), G17 GND (power), H7 GND (power), H8 GND (power), H9 GND (power), H10 GND (power), H11 GND (power), J8 GND (power), J9 GND (power), J10 GND (power), K1 GND (power), K7 GND (power), K8 GND (power), K9 GND (power), K10 GND (power), K11 GND (power), K16 GND (power), L4 GND (power), L7 GND (power), L8 GND (power), L10 GND (power), L11 GND (power), N5 GND (power), N15 GND (power), P3 GND (power), P8 GND (power), R1 GND (power), R11 GND (power), T4 GND (power), T14 GND (power), U2 GND (power), U7 GND (power), U12 GND (power)
part H pins: H1 VCOMPLF (power), J1 VCCPLF (power)
part I pins: A2 NC, A3 NC, A12 NC, A13 NC, A15 NC, A16 NC, B3 NC, B4 NC, B6 NC, B13 NC, B14 NC, B15 NC, C4 NC, C12 NC, C13 NC, C14 NC, D5 NC, D6 NC, D7 NC, D11 NC, D12 NC, E6 NC, E12 NC, F7 NC, F10 NC, F11 NC, F12 NC, H3 NC, M7 NC, M8 NC, M10 NC, M12 NC, N6 NC, N11 NC, N12 NC, N14 NC, P4 NC, P5 NC, P12 NC, P14 NC, R3 NC, R4 NC, R5 NC, R12 NC, R13 NC, R14 NC, R15 NC, T3 NC, T5 NC, T13 NC, T15 NC, U3 NC, U13 NC, U14 NC, U15 NC
part A text: BANK 0
part B text: BANK 1
part C text: BANK 2
part D text: BANK 3

## AGLP060V5-CSG289I
designator U?
IGLOO PLUS Low-Power Flash 1.5V FPGA with Flash*Freeze, 157 User IOs, 60K System Gates, 1Kbit Flash ROM, 289-Pin CSP, Industrial Grade, Pb-Free; Published: 29-May-2009; LatestRevisionDate: 11-Dec-2009; LatestRevisionNote: Updated to datasheet version 1.5 Apr-2009.; DatasheetVersion: v1.5, Apr-2009; PackageVersion: ver11.2, Nov-2009; PackageReference: CS289; Publisher: Altium Limited; PackageDescription: 289-Ball Chip Scale Package 0.8 mm Pitch (CS289); ComponentLink1Description: IGLOO PLUS Datasheet; ComponentLink1URL: http://www.actel.com/documents/IGLOOPLUS_DS.pdf; ComponentLink2Description: Package Mechanical Drawings; ComponentLink2URL: http://www.actel.com/documents/PckgMechDrwngs.pdf; ComponentLink3Description: IGLOO PLUS Documents; ComponentLink3URL: http://www.actel.com/products/iglooplus/docs.aspx; ComponentLink4Description: Actel.com Home; ComponentLink4URL: http://www.actel.com/
footprint CS289 (BGA, 289-Leads, Body 14x14mm, Pitch 0.8mm)
3D model AGLP060-CS289 (289-Ball Chip Scale Package 0.8 mm Pitch (CS289))
signal-integrity model AGLP060-CS289 (IGLOO PLUS)
part A pins: A1 GAB1/IO03RSB0 (io), A5 IO10RSB0 (io), A6 IO14RSB0 (io), A7 IO16RSB0 (io), A8 IO18RSB0 (io), A10 IO23RSB0 (io), A11 IO27RSB0 (io), A17 GBC0/IO30RSB0 (io), B1 GAA1/IO01RSB0 (io), B5 IO07RSB0 (io), B8 IO17RSB0 (io), B9 IO19RSB0 (io), B10 IO24RSB0 (io), B11 IO28RSB0 (io), B16 GBC1/IO31RSB0 (io), C2 GAA0/IO00RSB0 (io), C3 GAC0/IO04RSB0 (io), C6 IO09RSB0 (io), C7 IO13RSB0 (io), C8 IO15RSB0 (io), C9 IO21RSB0 (io), C11 IO29RSB0 (io), C16 GBA0/IO34RSB0 (io), D4 GAB0/IO02RSB0 (io), D9 IO20RSB0 (io), D10 IO25RSB0 (io), D14 GBB0/IO32RSB0 (io), D15 GBA1/IO35RSB0 (io), E5 GAC1/IO05RSB0 (io), E7 IO06RSB0 (io), E8 IO11RSB0 (io), E9 IO22RSB0 (io), E10 IO26RSB0 (io), E13 GBB1/IO33RSB0 (io), F8 IO08RSB0 (io), F9 IO12RSB0 (io)
part B pins: C17 IO39RSB1 (io), D16 IO37RSB1 (io), D17 IO42RSB1 (io), E14 GBA2/IO36RSB1 (io), E15 GBB2/IO38RSB1 (io), E17 IO44RSB1 (io), F13 GBC2/IO40RSB1 (io), F15 IO43RSB1 (io), F16 IO46RSB1 (io), F17 IO45RSB1 (io), G12 IO48RSB1 (io), G13 IO41RSB1 (io), G14 IO47RSB1 (io), G15 IO49RSB1 (io), G16 IO50RSB1 (io), H12 GCC1/IO52RSB1 (io), H13 IO51RSB1 (io), H14 GCA0/IO57RSB1 (io), H16 GCA2/IO58RSB1 (io), H17 GCC0/IO53RSB1 (io), J12 GCB2/IO59RSB1 (io), J13 GCB1/IO54RSB1 (io), J14 IO62RSB1 (io), J15 IO63RSB1 (io), J16 GCB0/IO55RSB1 (io), J17 GCA1/IO56RSB1 (io), K12 IO64RSB1 (io), K13 IO61RSB1 (io), K14 IO66RSB1 (io), K15 IO65RSB1 (io), K17 GCC2/IO60RSB1 (io), L12 GDC1/IO72RSB1 (io), L13 GDB1/IO74RSB1 (io), L15 IO70RSB1 (io), L16 IO68RSB1 (io), L17 IO67RSB1 (io), M13 GDA1/IO76RSB1 (io), M14 GDA0/IO77RSB1 (io), M15 IO71RSB1 (io), M16 IO69RSB1 (io), N16 GDB0/IO75RSB1 (io), N17 GDC0/IO73RSB1 (io)
part C pins: M9 IO90RSB2 (io), M11 IO83RSB2 (io), N7 IO104RSB2 (io), N8 IO98RSB2 (io), N9 IO96RSB2 (io), N13 GDB2/IO79RSB2 (io), P6 IO106RSB2 (io), P7 IO99RSB2 (io), P9 IO91RSB2 (io), P10 IO86RSB2 (io), P11 IO81RSB2 (io), P15 GDA2/IO78RSB2 (io), P16 GDC2/IO80RSB2 (io), R2 GEA2/IO110RSB2 (io), R7 IO102RSB2 (io), R8 IO97RSB2 (io), R9 IO93RSB2 (io), R10 IO89RSB2 (io), T2 GEC2/IO108RSB2 (io), T6 IO103RSB2 (io), T7 IO100RSB2 (io), T8 IO95RSB2 (io), T10 IO88RSB2 (io), T11 IO84RSB2 (io), T12 IO82RSB2 (io), U1 FF/GEB2/IO109RSB2 (io), U4 IO107RSB2 (io), U5 IO105RSB2 (io), U6 IO101RSB2 (io), U8 IO94RSB2 (io), U9 IO92RSB2 (io), U10 IO87RSB2 (io), U11 IO85RSB2 (io)
part D pins: C1 IO155RSB3 (io), D1 IO150RSB3 (io), D2 IO151RSB3 (io), E2 IO147RSB3 (io), E3 GAC2/IO152RSB3 (io), E4 GAA2/IO156RSB3 (io), F1 GFC1/IO140RSB3 (io), F2 IO142RSB3 (io), F3 IO149RSB3 (io), F5 GAB2/IO154RSB3 (io), F6 IO153RSB3 (io), G1 GFC0/IO139RSB3 (io), G3 IO144RSB3 (io), G4 IO145RSB3 (io), G5 IO146RSB3 (io), G6 IO148RSB3 (io), H2 GFB0/IO137RSB3 (io), H4 IO141RSB3 (io), H5 IO143RSB3 (io), H6 GFB1/IO138RSB3 (io), J2 GFA1/IO136RSB3 (io), J4 IO131RSB3 (io), J5 IO130RSB3 (io), J6 IO129RSB3 (io), K2 GFA0/IO135RSB3 (io), K3 GFB2/IO133RSB3 (io), K4 IO128RSB3 (io), K5 IO123RSB3 (io), K6 IO125RSB3 (io), L1 GFA2/IO134RSB3 (io), L2 GFC2/IO132RSB3 (io), L3 IO127RSB3 (io), L5 IO121RSB3 (io), L6 GEC1/IO116RSB3 (io), M1 IO126RSB3 (io), M3 IO124RSB3 (io), M4 IO122RSB3 (io), M5 GEB0/IO113RSB3 (io), M6 GEB1/IO114RSB3 (io), N1 IO119RSB3 (io), N2 IO120RSB3 (io), N3 GEC0/IO115RSB3 (io), N4 GEA0/IO111RSB3 (io), P1 IO118RSB3 (io), P2 IO117RSB3 (io), T1 GEA1/IO112RSB3 (io)
part E pins: R16 TMS (in), R17 TRST (in), T16 TDI (in), T17 TDO (out), U16 TCK (in)
part F pins: B7 VCCIB0 (power), B12 VCCIB0 (power), C5 VCCIB0 (power), E1 VCCIB3 (power), E11 VCCIB0 (power), E16 VCCIB1 (power), F4 VCCIB3 (power), G9 VCC (power), H15 VCCIB1 (power), J3 VCCIB3 (power), J7 VCC (power), J11 VCC (power), L9 VCC (power), L14 VCCIB1 (power), M2 VCCIB3 (power), M17 VCCIB1 (power), N10 VCCIB2 (power), P13 VCCIB2 (power), P17 VJTAG (power), R6 VCCIB2 (power), T9 VCCIB2 (power), U17 VPUMP (power)
part G pins: A4 GND (power), A9 GND (power), A14 GND (power), B2 GND (power), B17 GND (power), C10 GND (power), C15 GND (power), D3 GND (power), D8 GND (power), D13 GND (power), F14 GND (power), G2 GND (power), G7 GND (power), G8 GND (power), G10 GND (power), G11 GND (power), G17 GND (power), H7 GND (power), H8 GND (power), H9 GND (power), H10 GND (power), H11 GND (power), J8 GND (power), J9 GND (power), J10 GND (power), K1 GND (power), K7 GND (power), K8 GND (power), K9 GND (power), K10 GND (power), K11 GND (power), K16 GND (power), L4 GND (power), L7 GND (power), L8 GND (power), L10 GND (power), L11 GND (power), N5 GND (power), N15 GND (power), P3 GND (power), P8 GND (power), R1 GND (power), R11 GND (power), T4 GND (power), T14 GND (power), U2 GND (power), U7 GND (power), U12 GND (power)
part H pins: H1 VCOMPLF (power), J1 VCCPLF (power)
part I pins: A2 NC, A3 NC, A12 NC, A13 NC, A15 NC, A16 NC, B3 NC, B4 NC, B6 NC, B13 NC, B14 NC, B15 NC, C4 NC, C12 NC, C13 NC, C14 NC, D5 NC, D6 NC, D7 NC, D11 NC, D12 NC, E6 NC, E12 NC, F7 NC, F10 NC, F11 NC, F12 NC, H3 NC, M7 NC, M8 NC, M10 NC, M12 NC, N6 NC, N11 NC, N12 NC, N14 NC, P4 NC, P5 NC, P12 NC, P14 NC, R3 NC, R4 NC, R5 NC, R12 NC, R13 NC, R14 NC, R15 NC, T3 NC, T5 NC, T13 NC, T15 NC, U3 NC, U13 NC, U14 NC, U15 NC
part A text: BANK 0
part B text: BANK 1
part C text: BANK 2
part D text: BANK 3

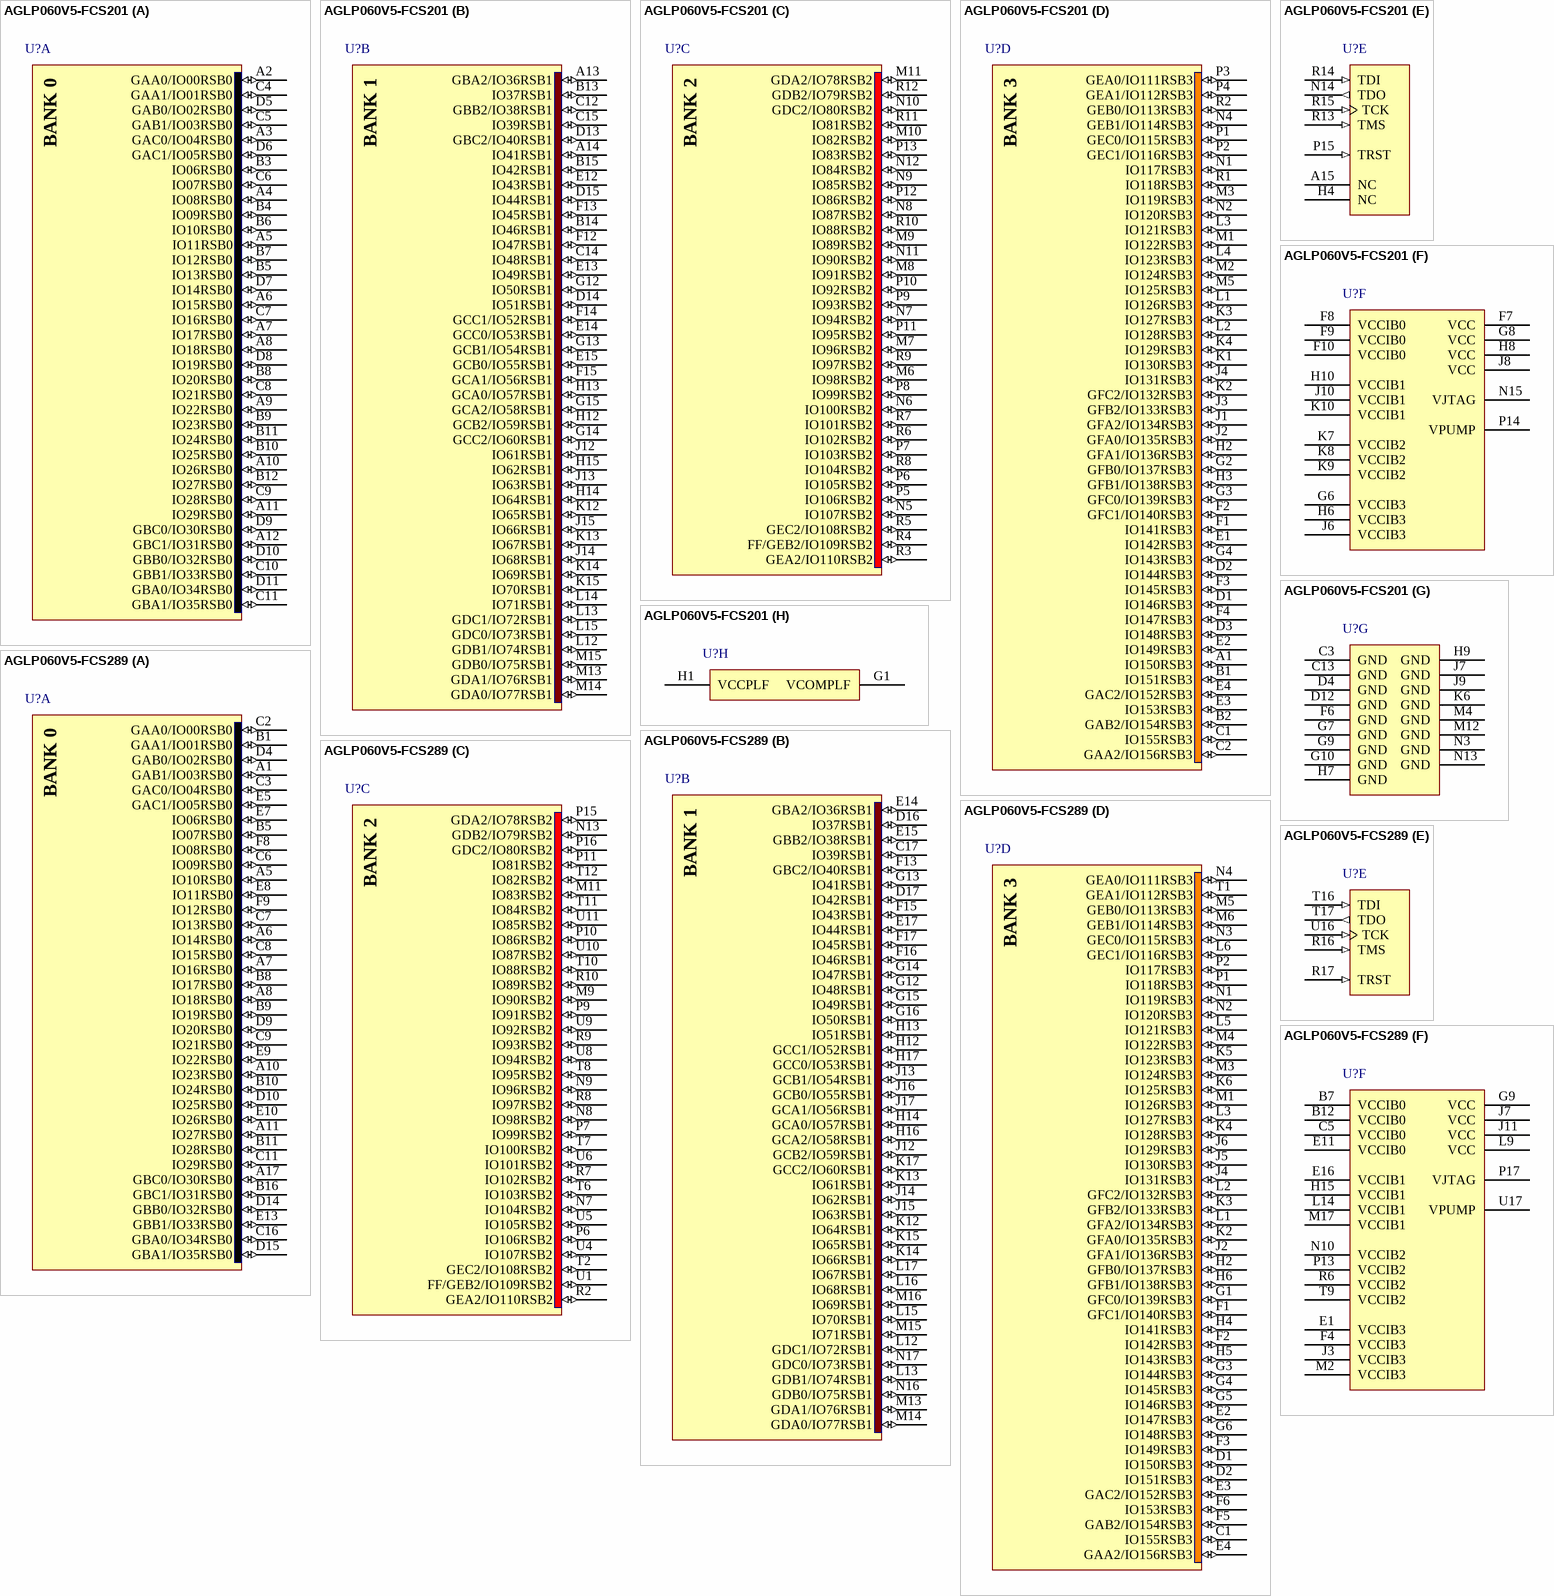
[diagram p35: symbols AGLP060V5-FCS201 to AGLP060V5-FCS289]

## AGLP060V5-FCS201
designator U?
IGLOO PLUS Low-Power Flash 1.5V FPGA with Flash*Freeze, 157 User IOs, 60K System Gates, 1Kbit Flash ROM, 201-Pin CSP, F Speed Grade, Commercial Grade; ComponentAvailability: F speed grade removed in ver1.5, Apr-2009 datasheet.; Published: 29-May-2009; DatasheetVersion: v1.4, Feb-2009; PackageVersion: ver11.2, Nov-2009; PackageReference: CS201; Publisher: Altium Limited; PackageDescription: 201-Ball Chip Scale Package 0.5 mm Pitch (CS201); Code_JEDEC: MO-195-AE (Depopulated); ComponentLink1Description: IGLOO PLUS Datasheet; ComponentLink1URL: http://www.actel.com/documents/IGLOOPLUS_DS.pdf; ComponentLink2Description: Package Mechanical Drawings; ComponentLink2URL: http://www.actel.com/documents/PckgMechDrwngs.pdf; ComponentLink3Description: IGLOO PLUS Documents; ComponentLink3URL: http://www.actel.com/products/iglooplus/docs.aspx; ComponentLink4Description: Actel.com Home; ComponentLink4URL: http://www.actel.com/
footprint CS201 (BGA, 201-Leads, Body 8x8mm, Pitch 0.5mm)
3D model AGLP060-CS201 (201-Ball Chip Scale Package 0.5 mm Pitch (CS201))
signal-integrity model AGLP060-CS201 (IGLOO PLUS)
part A pins: A2 GAA0/IO00RSB0 (io), A3 GAC0/IO04RSB0 (io), A4 IO08RSB0 (io), A5 IO11RSB0 (io), A6 IO15RSB0 (io), A7 IO17RSB0 (io), A8 IO18RSB0 (io), A9 IO22RSB0 (io), A10 IO26RSB0 (io), A11 IO29RSB0 (io), A12 GBC1/IO31RSB0 (io), B3 IO06RSB0 (io), B4 IO09RSB0 (io), B5 IO13RSB0 (io), B6 IO10RSB0 (io), B7 IO12RSB0 (io), B8 IO20RSB0 (io), B9 IO23RSB0 (io), B10 IO25RSB0 (io), B11 IO24RSB0 (io), B12 IO27RSB0 (io), C4 GAA1/IO01RSB0 (io), C5 GAB1/IO03RSB0 (io), C6 IO07RSB0 (io), C7 IO16RSB0 (io), C8 IO21RSB0 (io), C9 IO28RSB0 (io), C10 GBB1/IO33RSB0 (io), C11 GBA1/IO35RSB0 (io), D5 GAB0/IO02RSB0 (io), D6 GAC1/IO05RSB0 (io), D7 IO14RSB0 (io), D8 IO19RSB0 (io), D9 GBC0/IO30RSB0 (io), D10 GBB0/IO32RSB0 (io), D11 GBA0/IO34RSB0 (io)
part B pins: A13 GBA2/IO36RSB1 (io), A14 IO41RSB1 (io), B13 IO37RSB1 (io), B14 IO46RSB1 (io), B15 IO42RSB1 (io), C12 GBB2/IO38RSB1 (io), C14 IO48RSB1 (io), C15 IO39RSB1 (io), D13 GBC2/IO40RSB1 (io), D14 IO51RSB1 (io), D15 IO44RSB1 (io), E12 IO43RSB1 (io), E13 IO49RSB1 (io), E14 GCC0/IO53RSB1 (io), E15 GCB0/IO55RSB1 (io), F12 IO47RSB1 (io), F13 IO45RSB1 (io), F14 GCC1/IO52RSB1 (io), F15 GCA1/IO56RSB1 (io), G12 IO50RSB1 (io), G13 GCB1/IO54RSB1 (io), G14 GCC2/IO60RSB1 (io), G15 GCA2/IO58RSB1 (io), H12 GCB2/IO59RSB1 (io), H13 GCA0/IO57RSB1 (io), H14 IO64RSB1 (io), H15 IO62RSB1 (io), J12 IO61RSB1 (io), J13 IO63RSB1 (io), J14 IO68RSB1 (io), J15 IO66RSB1 (io), K12 IO65RSB1 (io), K13 IO67RSB1 (io), K14 IO69RSB1 (io), K15 IO70RSB1 (io), L12 GDB1/IO74RSB1 (io), L13 GDC1/IO72RSB1 (io), L14 IO71RSB1 (io), L15 GDC0/IO73RSB1 (io), M13 GDA1/IO76RSB1 (io), M14 GDA0/IO77RSB1 (io), M15 GDB0/IO75RSB1 (io)
part C pins: M6 IO98RSB2 (io), M7 IO96RSB2 (io), M8 IO91RSB2 (io), M9 IO89RSB2 (io), M10 IO82RSB2 (io), M11 GDA2/IO78RSB2 (io), N5 IO107RSB2 (io), N6 IO100RSB2 (io), N7 IO94RSB2 (io), N8 IO87RSB2 (io), N9 IO85RSB2 (io), N10 GDC2/IO80RSB2 (io), N11 IO90RSB2 (io), N12 IO84RSB2 (io), P5 IO106RSB2 (io), P6 IO105RSB2 (io), P7 IO103RSB2 (io), P8 IO99RSB2 (io), P9 IO93RSB2 (io), P10 IO92RSB2 (io), P11 IO95RSB2 (io), P12 IO86RSB2 (io), P13 IO83RSB2 (io), R3 GEA2/IO110RSB2 (io), R4 FF/GEB2/IO109RSB2 (io), R5 GEC2/IO108RSB2 (io), R6 IO102RSB2 (io), R7 IO101RSB2 (io), R8 IO104RSB2 (io), R9 IO97RSB2 (io), R10 IO88RSB2 (io), R11 IO81RSB2 (io), R12 GDB2/IO79RSB2 (io)
part D pins: A1 IO150RSB3 (io), B1 IO151RSB3 (io), B2 GAB2/IO154RSB3 (io), C1 IO155RSB3 (io), C2 GAA2/IO156RSB3 (io), D1 IO146RSB3 (io), D2 IO144RSB3 (io), D3 IO148RSB3 (io), E1 IO142RSB3 (io), E2 IO149RSB3 (io), E3 IO153RSB3 (io), E4 GAC2/IO152RSB3 (io), F1 IO141RSB3 (io), F2 GFC1/IO140RSB3 (io), F3 IO145RSB3 (io), F4 IO147RSB3 (io), G2 GFB0/IO137RSB3 (io), G3 GFC0/IO139RSB3 (io), G4 IO143RSB3 (io), H2 GFA1/IO136RSB3 (io), H3 GFB1/IO138RSB3 (io), J1 GFA2/IO134RSB3 (io), J2 GFA0/IO135RSB3 (io), J3 GFB2/IO133RSB3 (io), J4 IO131RSB3 (io), K1 IO130RSB3 (io), K2 GFC2/IO132RSB3 (io), K3 IO127RSB3 (io), K4 IO129RSB3 (io), L1 IO126RSB3 (io), L2 IO128RSB3 (io), L3 IO121RSB3 (io), L4 IO123RSB3 (io), M1 IO122RSB3 (io), M2 IO124RSB3 (io), M3 IO119RSB3 (io), M5 IO125RSB3 (io), N1 IO117RSB3 (io), N2 IO120RSB3 (io), N4 GEB1/IO114RSB3 (io), P1 GEC0/IO115RSB3 (io), P2 GEC1/IO116RSB3 (io), P3 GEA0/IO111RSB3 (io), P4 GEA1/IO112RSB3 (io), R1 IO118RSB3 (io), R2 GEB0/IO113RSB3 (io)
part E pins: A15 NC, H4 NC, N14 TDO (out), P15 TRST (in), R13 TMS (in), R14 TDI (in), R15 TCK (in)
part F pins: F7 VCC (power), F8 VCCIB0 (power), F9 VCCIB0 (power), F10 VCCIB0 (power), G6 VCCIB3 (power), G8 VCC (power), H6 VCCIB3 (power), H8 VCC (power), H10 VCCIB1 (power), J6 VCCIB3 (power), J8 VCC (power), J10 VCCIB1 (power), K7 VCCIB2 (power), K8 VCCIB2 (power), K9 VCCIB2 (power), K10 VCCIB1 (power), N15 VJTAG (power), P14 VPUMP (power)
part G pins: C3 GND (power), C13 GND (power), D4 GND (power), D12 GND (power), F6 GND (power), G7 GND (power), G9 GND (power), G10 GND (power), H7 GND (power), H9 GND (power), J7 GND (power), J9 GND (power), K6 GND (power), M4 GND (power), M12 GND (power), N3 GND (power), N13 GND (power)
part H pins: G1 VCOMPLF (power), H1 VCCPLF (power)
part A text: BANK 0
part B text: BANK 1
part C text: BANK 2
part D text: BANK 3

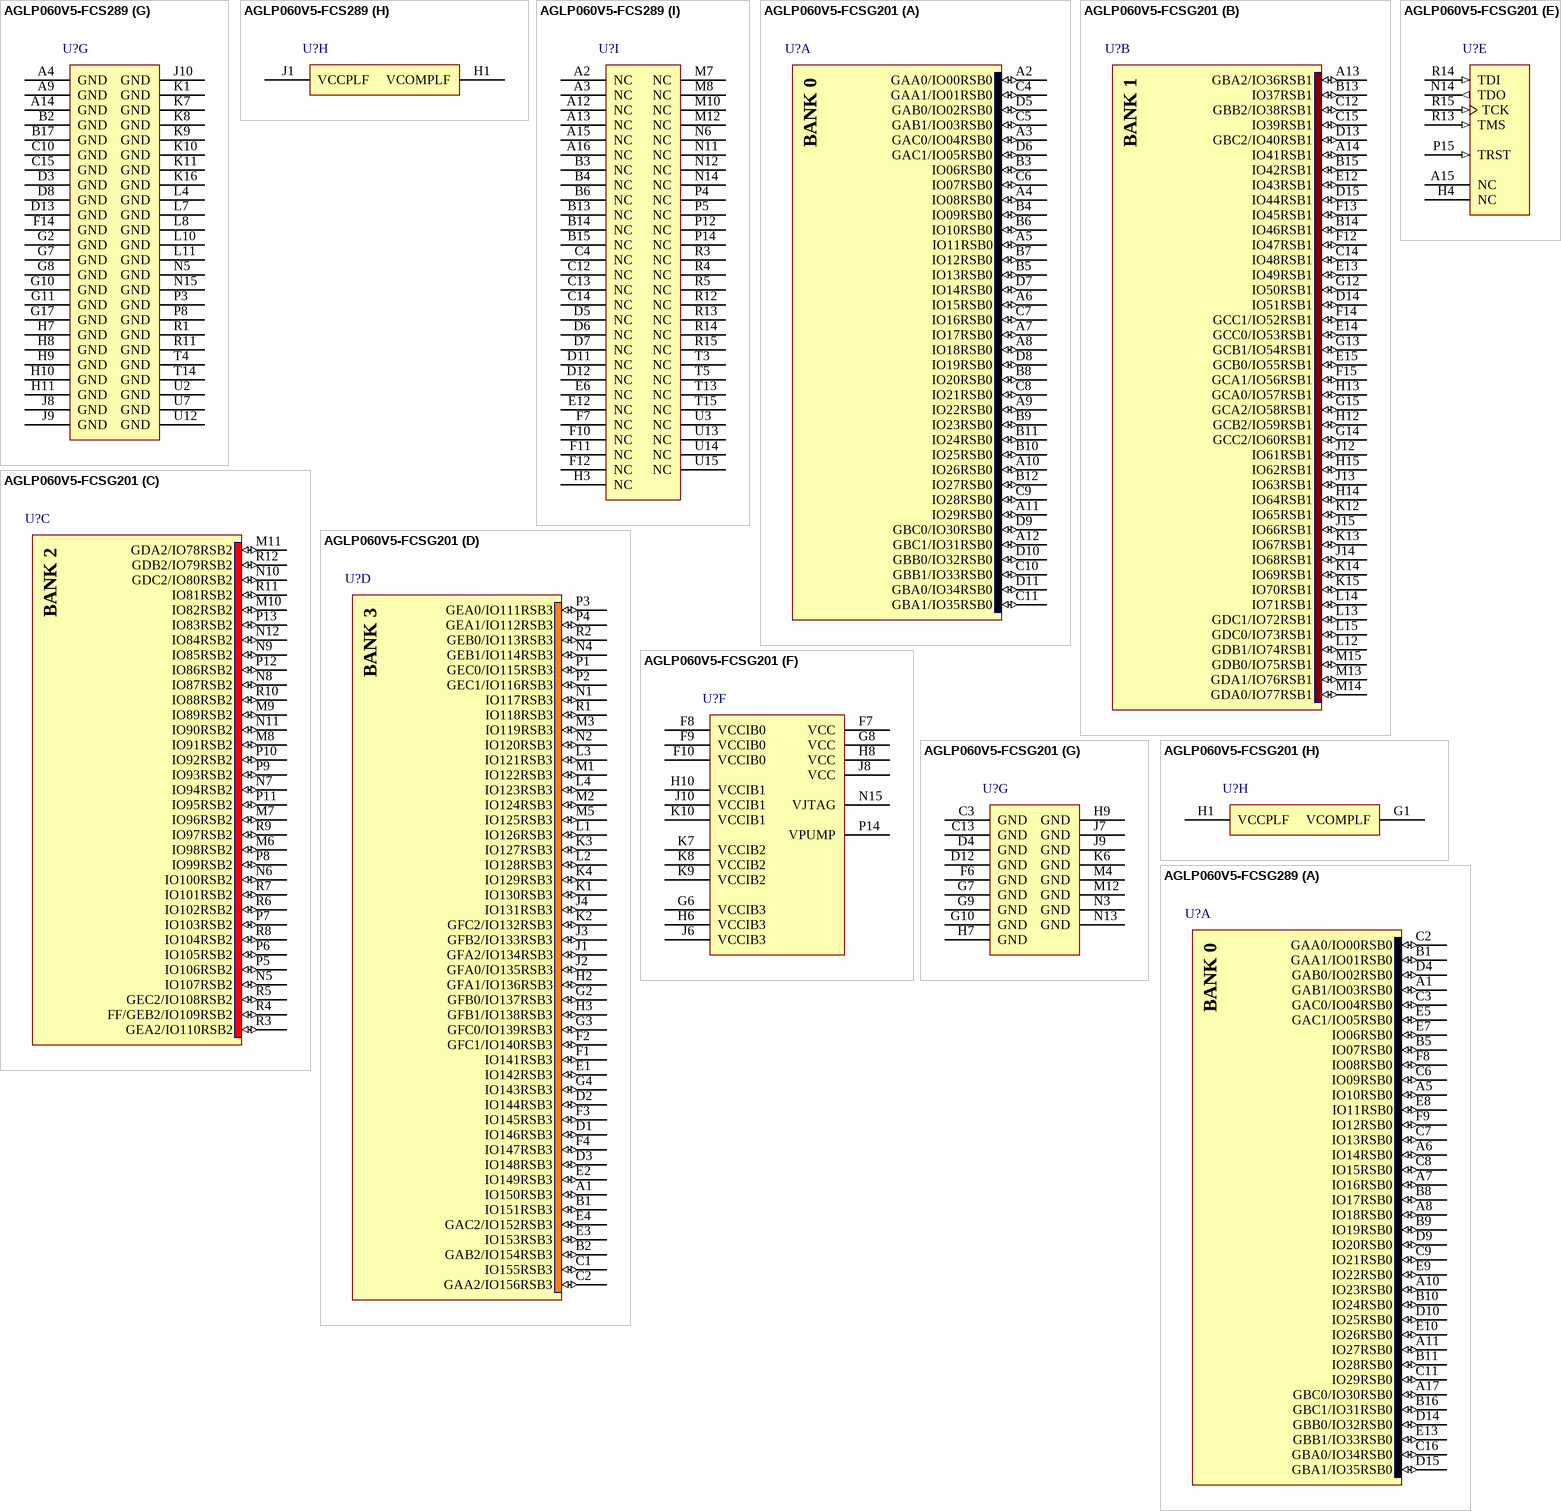
[diagram p36: symbols AGLP060V5-FCS289 to AGLP060V5-FCSG289]

## AGLP060V5-FCS289
designator U?
IGLOO PLUS Low-Power Flash 1.5V FPGA with Flash*Freeze, 157 User IOs, 60K System Gates, 1Kbit Flash ROM, 289-Pin CSP, F Speed Grade, Commercial Grade; ComponentAvailability: F speed grade removed in ver1.5, Apr-2009 datasheet.; Published: 29-May-2009; DatasheetVersion: v1.4, Feb-2009; PackageVersion: ver11.2, Nov-2009; PackageReference: CS289; Publisher: Altium Limited; PackageDescription: 289-Ball Chip Scale Package 0.8 mm Pitch (CS289); ComponentLink1Description: IGLOO PLUS Datasheet; ComponentLink1URL: http://www.actel.com/documents/IGLOOPLUS_DS.pdf; ComponentLink2Description: Package Mechanical Drawings; ComponentLink2URL: http://www.actel.com/documents/PckgMechDrwngs.pdf; ComponentLink3Description: IGLOO PLUS Documents; ComponentLink3URL: http://www.actel.com/products/iglooplus/docs.aspx; ComponentLink4Description: Actel.com Home; ComponentLink4URL: http://www.actel.com/
footprint CS289 (BGA, 289-Leads, Body 14x14mm, Pitch 0.8mm)
3D model AGLP060-CS289 (289-Ball Chip Scale Package 0.8 mm Pitch (CS289))
signal-integrity model AGLP060-CS289 (IGLOO PLUS)
part A pins: A1 GAB1/IO03RSB0 (io), A5 IO10RSB0 (io), A6 IO14RSB0 (io), A7 IO16RSB0 (io), A8 IO18RSB0 (io), A10 IO23RSB0 (io), A11 IO27RSB0 (io), A17 GBC0/IO30RSB0 (io), B1 GAA1/IO01RSB0 (io), B5 IO07RSB0 (io), B8 IO17RSB0 (io), B9 IO19RSB0 (io), B10 IO24RSB0 (io), B11 IO28RSB0 (io), B16 GBC1/IO31RSB0 (io), C2 GAA0/IO00RSB0 (io), C3 GAC0/IO04RSB0 (io), C6 IO09RSB0 (io), C7 IO13RSB0 (io), C8 IO15RSB0 (io), C9 IO21RSB0 (io), C11 IO29RSB0 (io), C16 GBA0/IO34RSB0 (io), D4 GAB0/IO02RSB0 (io), D9 IO20RSB0 (io), D10 IO25RSB0 (io), D14 GBB0/IO32RSB0 (io), D15 GBA1/IO35RSB0 (io), E5 GAC1/IO05RSB0 (io), E7 IO06RSB0 (io), E8 IO11RSB0 (io), E9 IO22RSB0 (io), E10 IO26RSB0 (io), E13 GBB1/IO33RSB0 (io), F8 IO08RSB0 (io), F9 IO12RSB0 (io)
part B pins: C17 IO39RSB1 (io), D16 IO37RSB1 (io), D17 IO42RSB1 (io), E14 GBA2/IO36RSB1 (io), E15 GBB2/IO38RSB1 (io), E17 IO44RSB1 (io), F13 GBC2/IO40RSB1 (io), F15 IO43RSB1 (io), F16 IO46RSB1 (io), F17 IO45RSB1 (io), G12 IO48RSB1 (io), G13 IO41RSB1 (io), G14 IO47RSB1 (io), G15 IO49RSB1 (io), G16 IO50RSB1 (io), H12 GCC1/IO52RSB1 (io), H13 IO51RSB1 (io), H14 GCA0/IO57RSB1 (io), H16 GCA2/IO58RSB1 (io), H17 GCC0/IO53RSB1 (io), J12 GCB2/IO59RSB1 (io), J13 GCB1/IO54RSB1 (io), J14 IO62RSB1 (io), J15 IO63RSB1 (io), J16 GCB0/IO55RSB1 (io), J17 GCA1/IO56RSB1 (io), K12 IO64RSB1 (io), K13 IO61RSB1 (io), K14 IO66RSB1 (io), K15 IO65RSB1 (io), K17 GCC2/IO60RSB1 (io), L12 GDC1/IO72RSB1 (io), L13 GDB1/IO74RSB1 (io), L15 IO70RSB1 (io), L16 IO68RSB1 (io), L17 IO67RSB1 (io), M13 GDA1/IO76RSB1 (io), M14 GDA0/IO77RSB1 (io), M15 IO71RSB1 (io), M16 IO69RSB1 (io), N16 GDB0/IO75RSB1 (io), N17 GDC0/IO73RSB1 (io)
part C pins: M9 IO90RSB2 (io), M11 IO83RSB2 (io), N7 IO104RSB2 (io), N8 IO98RSB2 (io), N9 IO96RSB2 (io), N13 GDB2/IO79RSB2 (io), P6 IO106RSB2 (io), P7 IO99RSB2 (io), P9 IO91RSB2 (io), P10 IO86RSB2 (io), P11 IO81RSB2 (io), P15 GDA2/IO78RSB2 (io), P16 GDC2/IO80RSB2 (io), R2 GEA2/IO110RSB2 (io), R7 IO102RSB2 (io), R8 IO97RSB2 (io), R9 IO93RSB2 (io), R10 IO89RSB2 (io), T2 GEC2/IO108RSB2 (io), T6 IO103RSB2 (io), T7 IO100RSB2 (io), T8 IO95RSB2 (io), T10 IO88RSB2 (io), T11 IO84RSB2 (io), T12 IO82RSB2 (io), U1 FF/GEB2/IO109RSB2 (io), U4 IO107RSB2 (io), U5 IO105RSB2 (io), U6 IO101RSB2 (io), U8 IO94RSB2 (io), U9 IO92RSB2 (io), U10 IO87RSB2 (io), U11 IO85RSB2 (io)
part D pins: C1 IO155RSB3 (io), D1 IO150RSB3 (io), D2 IO151RSB3 (io), E2 IO147RSB3 (io), E3 GAC2/IO152RSB3 (io), E4 GAA2/IO156RSB3 (io), F1 GFC1/IO140RSB3 (io), F2 IO142RSB3 (io), F3 IO149RSB3 (io), F5 GAB2/IO154RSB3 (io), F6 IO153RSB3 (io), G1 GFC0/IO139RSB3 (io), G3 IO144RSB3 (io), G4 IO145RSB3 (io), G5 IO146RSB3 (io), G6 IO148RSB3 (io), H2 GFB0/IO137RSB3 (io), H4 IO141RSB3 (io), H5 IO143RSB3 (io), H6 GFB1/IO138RSB3 (io), J2 GFA1/IO136RSB3 (io), J4 IO131RSB3 (io), J5 IO130RSB3 (io), J6 IO129RSB3 (io), K2 GFA0/IO135RSB3 (io), K3 GFB2/IO133RSB3 (io), K4 IO128RSB3 (io), K5 IO123RSB3 (io), K6 IO125RSB3 (io), L1 GFA2/IO134RSB3 (io), L2 GFC2/IO132RSB3 (io), L3 IO127RSB3 (io), L5 IO121RSB3 (io), L6 GEC1/IO116RSB3 (io), M1 IO126RSB3 (io), M3 IO124RSB3 (io), M4 IO122RSB3 (io), M5 GEB0/IO113RSB3 (io), M6 GEB1/IO114RSB3 (io), N1 IO119RSB3 (io), N2 IO120RSB3 (io), N3 GEC0/IO115RSB3 (io), N4 GEA0/IO111RSB3 (io), P1 IO118RSB3 (io), P2 IO117RSB3 (io), T1 GEA1/IO112RSB3 (io)
part E pins: R16 TMS (in), R17 TRST (in), T16 TDI (in), T17 TDO (out), U16 TCK (in)
part F pins: B7 VCCIB0 (power), B12 VCCIB0 (power), C5 VCCIB0 (power), E1 VCCIB3 (power), E11 VCCIB0 (power), E16 VCCIB1 (power), F4 VCCIB3 (power), G9 VCC (power), H15 VCCIB1 (power), J3 VCCIB3 (power), J7 VCC (power), J11 VCC (power), L9 VCC (power), L14 VCCIB1 (power), M2 VCCIB3 (power), M17 VCCIB1 (power), N10 VCCIB2 (power), P13 VCCIB2 (power), P17 VJTAG (power), R6 VCCIB2 (power), T9 VCCIB2 (power), U17 VPUMP (power)
part G pins: A4 GND (power), A9 GND (power), A14 GND (power), B2 GND (power), B17 GND (power), C10 GND (power), C15 GND (power), D3 GND (power), D8 GND (power), D13 GND (power), F14 GND (power), G2 GND (power), G7 GND (power), G8 GND (power), G10 GND (power), G11 GND (power), G17 GND (power), H7 GND (power), H8 GND (power), H9 GND (power), H10 GND (power), H11 GND (power), J8 GND (power), J9 GND (power), J10 GND (power), K1 GND (power), K7 GND (power), K8 GND (power), K9 GND (power), K10 GND (power), K11 GND (power), K16 GND (power), L4 GND (power), L7 GND (power), L8 GND (power), L10 GND (power), L11 GND (power), N5 GND (power), N15 GND (power), P3 GND (power), P8 GND (power), R1 GND (power), R11 GND (power), T4 GND (power), T14 GND (power), U2 GND (power), U7 GND (power), U12 GND (power)
part H pins: H1 VCOMPLF (power), J1 VCCPLF (power)
part I pins: A2 NC, A3 NC, A12 NC, A13 NC, A15 NC, A16 NC, B3 NC, B4 NC, B6 NC, B13 NC, B14 NC, B15 NC, C4 NC, C12 NC, C13 NC, C14 NC, D5 NC, D6 NC, D7 NC, D11 NC, D12 NC, E6 NC, E12 NC, F7 NC, F10 NC, F11 NC, F12 NC, H3 NC, M7 NC, M8 NC, M10 NC, M12 NC, N6 NC, N11 NC, N12 NC, N14 NC, P4 NC, P5 NC, P12 NC, P14 NC, R3 NC, R4 NC, R5 NC, R12 NC, R13 NC, R14 NC, R15 NC, T3 NC, T5 NC, T13 NC, T15 NC, U3 NC, U13 NC, U14 NC, U15 NC
part A text: BANK 0
part B text: BANK 1
part C text: BANK 2
part D text: BANK 3